# Altium schematic symbol library arthurbenemann-Atmel.SchLib: 651 symbols (part 3 of 28)
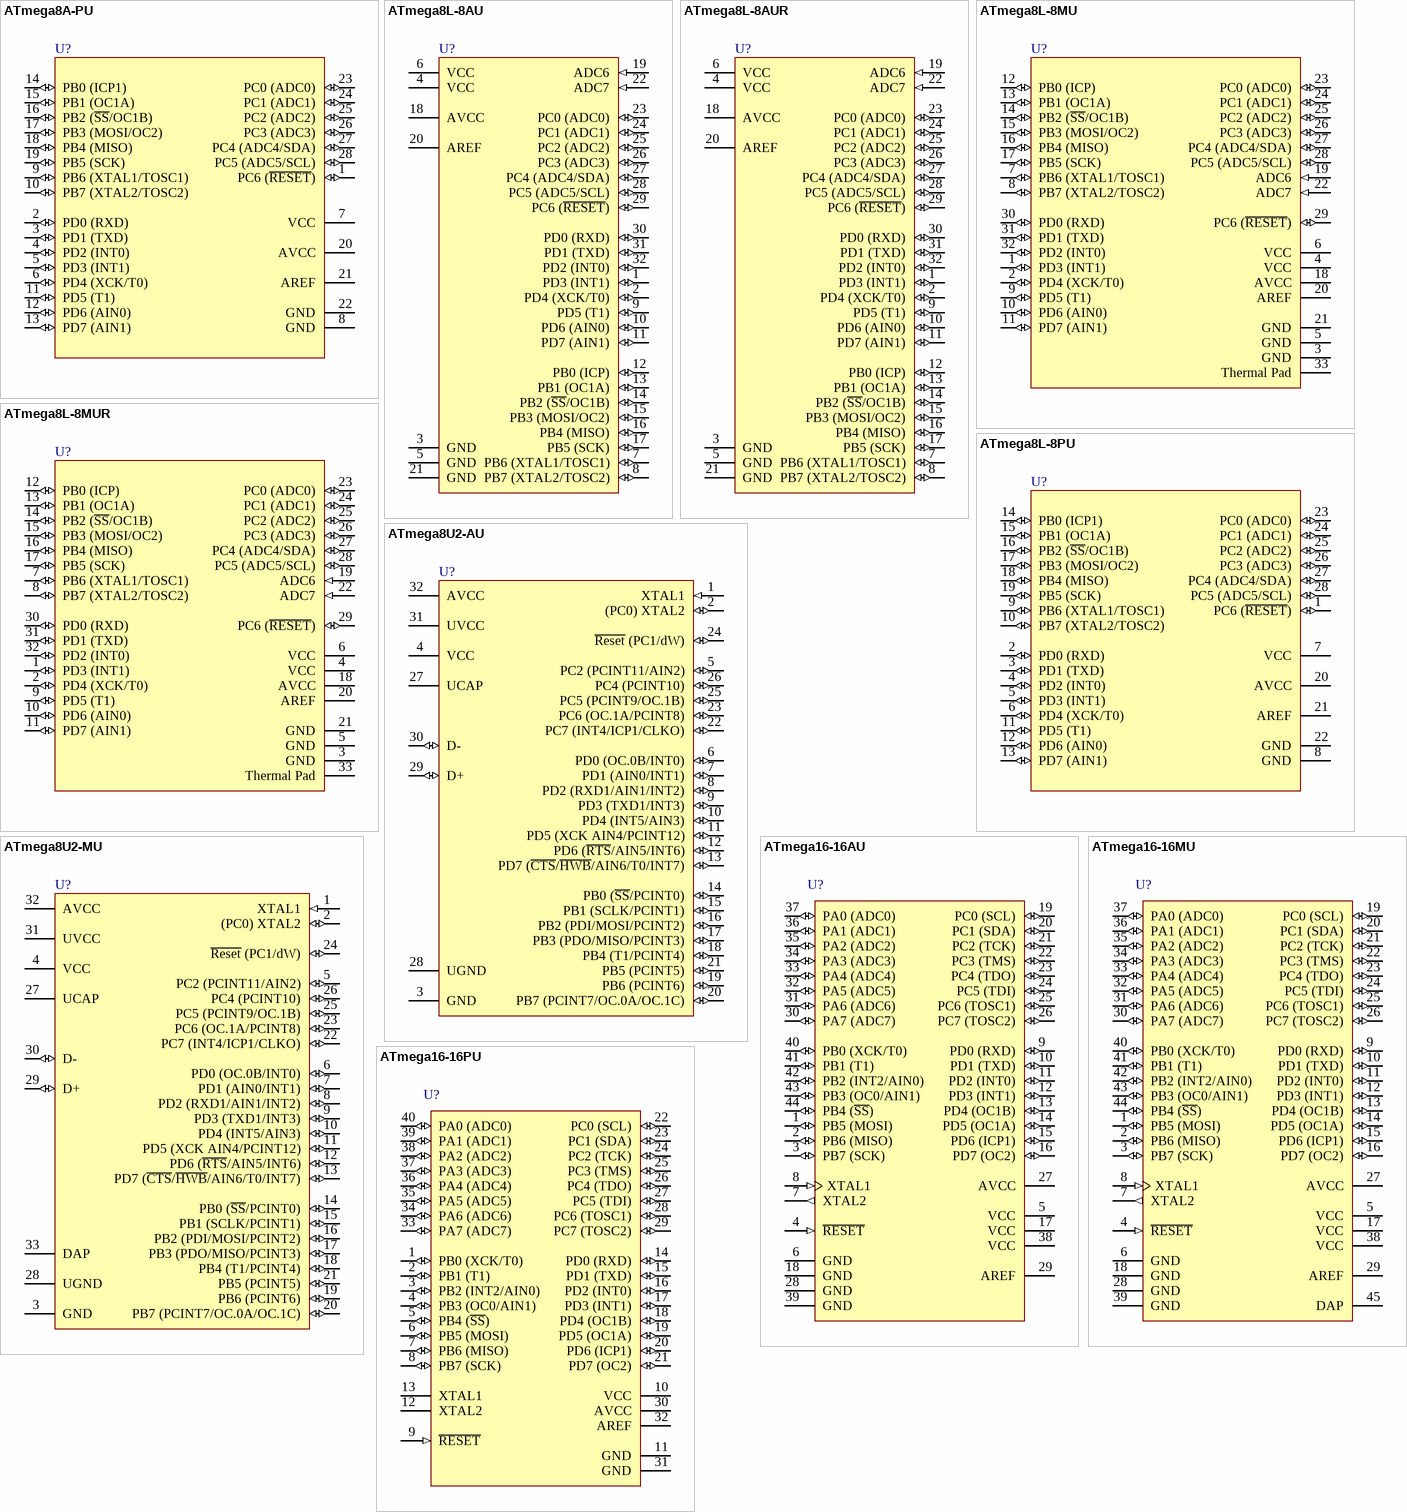
[diagram p89: symbols ATmega8A-PU to ATmega16-16PU]

## ATmega16-16AU
designator U?
8-bit AVR Microcontroller, 4.5-5.5V, 16KB Flash, 512 Bytes EEPROM, 1KB SRAM, 44-pin TQFP, Industrial Grade (-40°C to 85°C), Pb-Free; DatasheetVersion: revT, Jul-2010; PackageVersion: revC, Oct-2010; PackageReference: 44A; PackageDescription: 44-Pin Plastic Thin Profile Quad Flat Pack, 10 x 10 x 1.0 mm Body, 0.8 mm Pitch (TQFP); Code_JEDEC: MS-026-ACB; ComponentLink1Description: Manufacturer URL; ComponentLink1URL: http://www.atmel.com/; ComponentLink2Description: ATmega16(L)  Datasheet; ComponentLink2URL: http://www.atmel.com/dyn/resources/prod_documents/doc2466.pdf; ComponentLink3Description: ATmega16(L) Summary; ComponentLink3URL: http://www.atmel.com/dyn/resources/prod_documents/2466S.pdf
footprint 44A_N (Thin QFP, 44-Leads, Body 10x10mm, Pitch 0.8mm, IPC Medium Density)
footprint 44A_L (Thin QFP, 44-Leads, Body 10x10mm, Pitch 0.8mm, IPC High Density)
footprint 44A_M (Thin QFP, 44-Leads, Body 10x10mm, Pitch 0.8mm, IPC Low Density)
pins: 1 PB5 (MOSI) (io), 2 PB6 (MISO) (io), 3 PB7 (SCK) (io), 4 ~{RESET} (in), 5 VCC (power), 6 GND (power), 7 XTAL2 (out), 8 XTAL1 (in), 9 PD0 (RXD) (io), 10 PD1 (TXD) (io), 11 PD2 (INT0) (io), 12 PD3 (INT1) (io), 13 PD4 (OC1B) (io), 14 PD5 (OC1A) (io), 15 PD6 (ICP1) (io), 16 PD7 (OC2) (io), 17 VCC (power), 18 GND (power), 19 PC0 (SCL) (io), 20 PC1 (SDA) (io), 21 PC2 (TCK) (io), 22 PC3 (TMS) (io), 23 PC4 (TDO) (io), 24 PC5 (TDI) (io), 25 PC6 (TOSC1) (io), 26 PC7 (TOSC2) (io), 27 AVCC (power), 28 GND (power), 29 AREF (power), 30 PA7 (ADC7) (io), 31 PA6 (ADC6) (io), 32 PA5 (ADC5) (io), 33 PA4 (ADC4) (io), 34 PA3 (ADC3) (io), 35 PA2 (ADC2) (io), 36 PA1 (ADC1) (io), 37 PA0 (ADC0) (io), 38 VCC (power), 39 GND (power), 40 PB0 (XCK/T0) (io), 41 PB1 (T1) (io), 42 PB2 (INT2/AIN0) (io), 43 PB3 (OC0/AIN1) (io), 44 PB4 (~{SS}) (io)

## ATmega16-16MU
designator U?
8-bit AVR Microcontroller, 4.5-5.5V, 16KB Flash, 512 Bytes EEPROM, 1KB SRAM, 44-pin VQFN, Industrial Grade (-40°C to 85°C), Pb-Free; DatasheetVersion: revS, May-2009; PackageVersion: revH, Sep-2008; PackageReference: 44M1; PackageDescription: 44-Pin Plastic Very Thin Quad Flat No-Lead Package, 7 x 7 x 1.0 mm Body, 0.5 mm Pitch (VQFN), 5.2 mm Exposed Pad; Code_JEDEC: MO-220-VKKD-1; ComponentLink1Description: Manufacturer URL; ComponentLink1URL: http://www.atmel.com/; ComponentLink2Description: ATmega16(L)  Datasheet; ComponentLink2URL: http://www.atmel.com/dyn/resources/prod_documents/doc2466.pdf; ComponentLink3Description: ATmega16(L) Summary; ComponentLink3URL: http://www.atmel.com/dyn/resources/prod_documents/2466S.pdf
footprint 44M1_N (QFN, 44-Leads, Body 7x7mm, Pitch 0.5mm, Thermal Pad 5.3x5.3mm, IPC Medium Density)
footprint 44M1_L (QFN, 44-Leads, Body 7x7mm, Pitch 0.5mm, Thermal Pad 5.3x5.3mm, IPC High Density)
footprint 44M1_M (QFN, 44-Leads, Body 7x7mm, Pitch 0.5mm, Thermal Pad 5.3x5.3mm, IPC Low Density)
pins: 1 PB5 (MOSI) (io), 2 PB6 (MISO) (io), 3 PB7 (SCK) (io), 4 ~{RESET} (in), 5 VCC (power), 6 GND (power), 7 XTAL2 (out), 8 XTAL1 (in), 9 PD0 (RXD) (io), 10 PD1 (TXD) (io), 11 PD2 (INT0) (io), 12 PD3 (INT1) (io), 13 PD4 (OC1B) (io), 14 PD5 (OC1A) (io), 15 PD6 (ICP1) (io), 16 PD7 (OC2) (io), 17 VCC (power), 18 GND (power), 19 PC0 (SCL) (io), 20 PC1 (SDA) (io), 21 PC2 (TCK) (io), 22 PC3 (TMS) (io), 23 PC4 (TDO) (io), 24 PC5 (TDI) (io), 25 PC6 (TOSC1) (io), 26 PC7 (TOSC2) (io), 27 AVCC (power), 28 GND (power), 29 AREF (power), 30 PA7 (ADC7) (io), 31 PA6 (ADC6) (io), 32 PA5 (ADC5) (io), 33 PA4 (ADC4) (io), 34 PA3 (ADC3) (io), 35 PA2 (ADC2) (io), 36 PA1 (ADC1) (io), 37 PA0 (ADC0) (io), 38 VCC (power), 39 GND (power), 40 PB0 (XCK/T0) (io), 41 PB1 (T1) (io), 42 PB2 (INT2/AIN0) (io), 43 PB3 (OC0/AIN1) (io), 44 PB4 (~{SS}) (io), 45 DAP (power)

## ATmega16-16PU
designator U?
8-bit AVR Microcontroller, 4.5-5.5V, 16KB Flash, 512 Bytes EEPROM, 1KB SRAM, 40-pin PDIP, Industrial Grade (-40°C to 85°C), Pb-Free; DatasheetVersion: revS, May-2009; PackageVersion: revB, Sep-2001; PackageReference: 40P6; PackageDescription: 40-lead (0.600"/15.24mm Wide) Plastic Dual Inline Package (PDIP); Code_JEDEC: MS-011-AC; ComponentLink1Description: Manufacturer URL; ComponentLink1URL: http://www.atmel.com/; ComponentLink2Description: ATmega16(L)  Datasheet; ComponentLink2URL: http://www.atmel.com/dyn/resources/prod_documents/doc2466.pdf; ComponentLink3Description: ATmega16(L) Summary; ComponentLink3URL: http://www.atmel.com/dyn/resources/prod_documents/2466S.pdf
footprint 40P6 (DIP, 40-Leads, Row Spacing 15.24mm, Pitch 2.54mm, Body 52.2x13.95mm)
pins: 1 PB0 (XCK/T0) (io), 2 PB1 (T1) (io), 3 PB2 (INT2/AIN0) (io), 4 PB3 (OC0/AIN1) (io), 5 PB4 (~{SS}) (io), 6 PB5 (MOSI) (io), 7 PB6 (MISO) (io), 8 PB7 (SCK) (io), 9 ~{RESET} (in), 10 VCC (power), 11 GND (power), 12 XTAL2, 13 XTAL1, 14 PD0 (RXD) (io), 15 PD1 (TXD) (io), 16 PD2 (INT0) (io), 17 PD3 (INT1) (io), 18 PD4 (OC1B) (io), 19 PD5 (OC1A) (io), 20 PD6 (ICP1) (io), 21 PD7 (OC2) (io), 22 PC0 (SCL) (io), 23 PC1 (SDA) (io), 24 PC2 (TCK) (io), 25 PC3 (TMS) (io), 26 PC4 (TDO) (io), 27 PC5 (TDI) (io), 28 PC6 (TOSC1) (io), 29 PC7 (TOSC2) (io), 30 AVCC (power), 31 GND (power), 32 AREF (power), 33 PA7 (ADC7) (io), 34 PA6 (ADC6) (io), 35 PA5 (ADC5) (io), 36 PA4 (ADC4) (io), 37 PA3 (ADC3) (io), 38 PA2 (ADC2) (io), 39 PA1 (ADC1) (io), 40 PA0 (ADC0) (io)

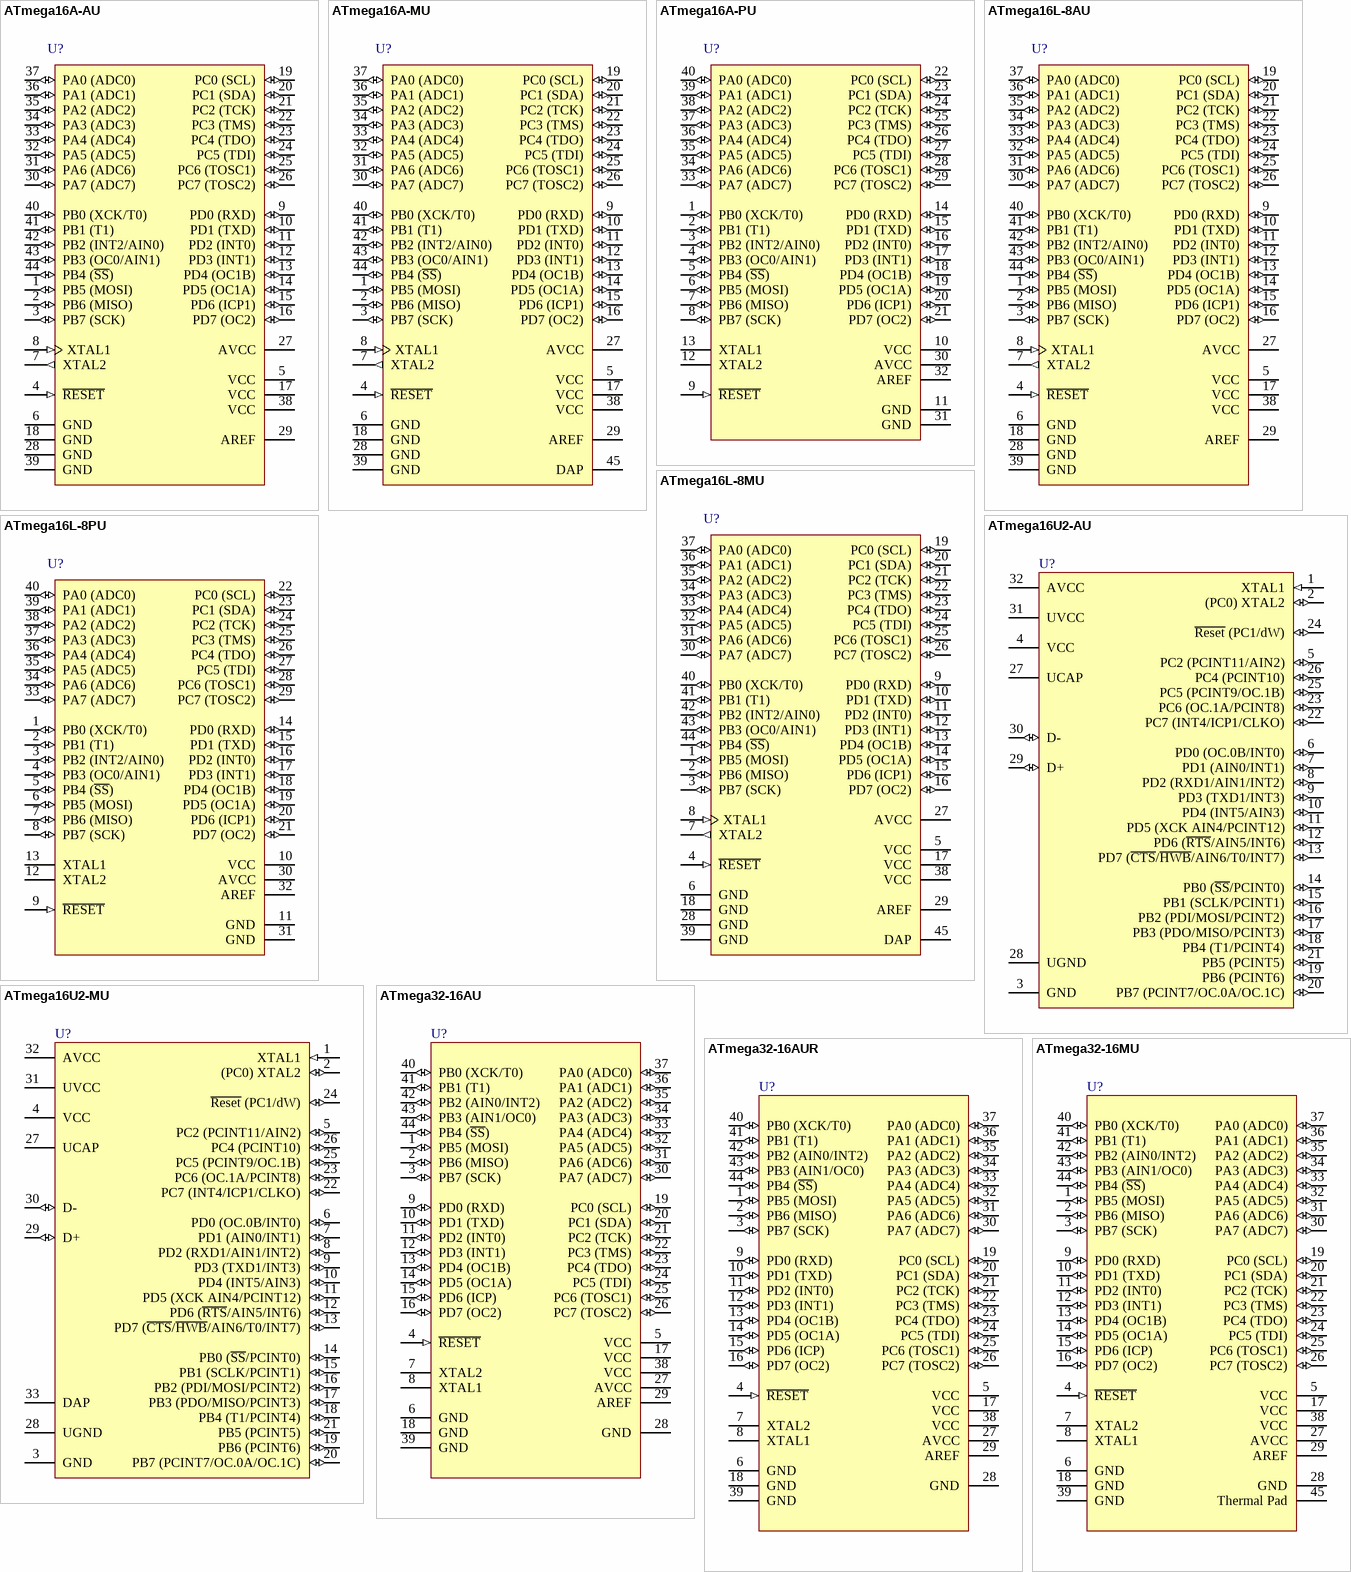
[diagram p6: symbols ATmega16A-AU to ATmega32-16MU]

## ATmega16A-AU
designator U?
8-bit AVR Microcontroller, 16KB Flash, 512 Bytes EEPROM, 1KB SRAM, 44-pin TQFP, Industrial Grade (-40°C to 85°C); DatasheetVersion: revB, Jul-2009; PackageVersion: revC, Oct-2010; PackageReference: 44A; PackageDescription: 44-Pin Plastic Thin Profile Quad Flat Pack, 10 x 10 x 1.0 mm Body, 0.8 mm Pitch (TQFP); Code_JEDEC: MS-026-ACB; ComponentLink1Description: Manufacturer URL; ComponentLink1URL: http://www.atmel.com/; ComponentLink2Description: ATmega16A Datasheet; ComponentLink2URL: http://www.atmel.com/dyn/resources/prod_documents/doc8154.pdf; ComponentLink3Description: ATmega16A Summary; ComponentLink3URL: http://www.atmel.com/dyn/resources/prod_documents/8154S.pdf
footprint 44A_N (Thin QFP, 44-Leads, Body 10x10mm, Pitch 0.8mm, IPC Medium Density)
footprint 44A_L (Thin QFP, 44-Leads, Body 10x10mm, Pitch 0.8mm, IPC High Density)
footprint 44A_M (Thin QFP, 44-Leads, Body 10x10mm, Pitch 0.8mm, IPC Low Density)
pins: 1 PB5 (MOSI) (io), 2 PB6 (MISO) (io), 3 PB7 (SCK) (io), 4 ~{RESET} (in), 5 VCC (power), 6 GND (power), 7 XTAL2 (out), 8 XTAL1 (in), 9 PD0 (RXD) (io), 10 PD1 (TXD) (io), 11 PD2 (INT0) (io), 12 PD3 (INT1) (io), 13 PD4 (OC1B) (io), 14 PD5 (OC1A) (io), 15 PD6 (ICP1) (io), 16 PD7 (OC2) (io), 17 VCC (power), 18 GND (power), 19 PC0 (SCL) (io), 20 PC1 (SDA) (io), 21 PC2 (TCK) (io), 22 PC3 (TMS) (io), 23 PC4 (TDO) (io), 24 PC5 (TDI) (io), 25 PC6 (TOSC1) (io), 26 PC7 (TOSC2) (io), 27 AVCC (power), 28 GND (power), 29 AREF (power), 30 PA7 (ADC7) (io), 31 PA6 (ADC6) (io), 32 PA5 (ADC5) (io), 33 PA4 (ADC4) (io), 34 PA3 (ADC3) (io), 35 PA2 (ADC2) (io), 36 PA1 (ADC1) (io), 37 PA0 (ADC0) (io), 38 VCC (power), 39 GND (power), 40 PB0 (XCK/T0) (io), 41 PB1 (T1) (io), 42 PB2 (INT2/AIN0) (io), 43 PB3 (OC0/AIN1) (io), 44 PB4 (~{SS}) (io)

## ATmega16A-MU
designator U?
8-bit AVR Microcontroller, 16KB Flash, 512 Bytes EEPROM, 1KB SRAM, 44-pin VQFN, Industrial Grade (-40°C to 85°C); DatasheetVersion: revB, Jul-2009; PackageVersion: revH, Sep-2008; PackageReference: 44M1; PackageDescription: 44-Pin Plastic Very Thin Quad Flat No-Lead Package, 7 x 7 x 1.0 mm Body, 0.5 mm Pitch (VQFN), 5.2 mm Exposed Pad; Code_JEDEC: MO-220-VKKD-1; ComponentLink1Description: Manufacturer URL; ComponentLink1URL: http://www.atmel.com/; ComponentLink2Description: ATmega16A Datasheet; ComponentLink2URL: http://www.atmel.com/dyn/resources/prod_documents/doc8154.pdf; ComponentLink3Description: ATmega16A Summary; ComponentLink3URL: http://www.atmel.com/dyn/resources/prod_documents/8154S.pdf
footprint 44M1_N (QFN, 44-Leads, Body 7x7mm, Pitch 0.5mm, Thermal Pad 5.3x5.3mm, IPC Medium Density)
footprint 44M1_L (QFN, 44-Leads, Body 7x7mm, Pitch 0.5mm, Thermal Pad 5.3x5.3mm, IPC High Density)
footprint 44M1_M (QFN, 44-Leads, Body 7x7mm, Pitch 0.5mm, Thermal Pad 5.3x5.3mm, IPC Low Density)
pins: 1 PB5 (MOSI) (io), 2 PB6 (MISO) (io), 3 PB7 (SCK) (io), 4 ~{RESET} (in), 5 VCC (power), 6 GND (power), 7 XTAL2 (out), 8 XTAL1 (in), 9 PD0 (RXD) (io), 10 PD1 (TXD) (io), 11 PD2 (INT0) (io), 12 PD3 (INT1) (io), 13 PD4 (OC1B) (io), 14 PD5 (OC1A) (io), 15 PD6 (ICP1) (io), 16 PD7 (OC2) (io), 17 VCC (power), 18 GND (power), 19 PC0 (SCL) (io), 20 PC1 (SDA) (io), 21 PC2 (TCK) (io), 22 PC3 (TMS) (io), 23 PC4 (TDO) (io), 24 PC5 (TDI) (io), 25 PC6 (TOSC1) (io), 26 PC7 (TOSC2) (io), 27 AVCC (power), 28 GND (power), 29 AREF (power), 30 PA7 (ADC7) (io), 31 PA6 (ADC6) (io), 32 PA5 (ADC5) (io), 33 PA4 (ADC4) (io), 34 PA3 (ADC3) (io), 35 PA2 (ADC2) (io), 36 PA1 (ADC1) (io), 37 PA0 (ADC0) (io), 38 VCC (power), 39 GND (power), 40 PB0 (XCK/T0) (io), 41 PB1 (T1) (io), 42 PB2 (INT2/AIN0) (io), 43 PB3 (OC0/AIN1) (io), 44 PB4 (~{SS}) (io), 45 DAP (power)

## ATmega16A-PU
designator U?
8-bit AVR Microcontroller, 16KB Flash, 512 Bytes EEPROM, 1KB SRAM, 40-pin PDIP, Industrial Grade (-40°C to 85°C); DatasheetVersion: revB, Jul-2009; PackageVersion: revB, Sep-2001; PackageReference: 40P6; PackageDescription: 40-lead (0.600"/15.24mm Wide) Plastic Dual Inline Package (PDIP); Code_JEDEC: MS-011-AC; ComponentLink1Description: Manufacturer URL; ComponentLink1URL: http://www.atmel.com/; ComponentLink2Description: ATmega16A Datasheet; ComponentLink2URL: http://www.atmel.com/dyn/resources/prod_documents/doc8154.pdf; ComponentLink3Description: ATmega16A Summary; ComponentLink3URL: http://www.atmel.com/dyn/resources/prod_documents/8154S.pdf
footprint 40P6 (DIP, 40-Leads, Row Spacing 15.24mm, Pitch 2.54mm, Body 52.2x13.95mm)
pins: 1 PB0 (XCK/T0) (io), 2 PB1 (T1) (io), 3 PB2 (INT2/AIN0) (io), 4 PB3 (OC0/AIN1) (io), 5 PB4 (~{SS}) (io), 6 PB5 (MOSI) (io), 7 PB6 (MISO) (io), 8 PB7 (SCK) (io), 9 ~{RESET} (in), 10 VCC (power), 11 GND (power), 12 XTAL2, 13 XTAL1, 14 PD0 (RXD) (io), 15 PD1 (TXD) (io), 16 PD2 (INT0) (io), 17 PD3 (INT1) (io), 18 PD4 (OC1B) (io), 19 PD5 (OC1A) (io), 20 PD6 (ICP1) (io), 21 PD7 (OC2) (io), 22 PC0 (SCL) (io), 23 PC1 (SDA) (io), 24 PC2 (TCK) (io), 25 PC3 (TMS) (io), 26 PC4 (TDO) (io), 27 PC5 (TDI) (io), 28 PC6 (TOSC1) (io), 29 PC7 (TOSC2) (io), 30 AVCC (power), 31 GND (power), 32 AREF (power), 33 PA7 (ADC7) (io), 34 PA6 (ADC6) (io), 35 PA5 (ADC5) (io), 36 PA4 (ADC4) (io), 37 PA3 (ADC3) (io), 38 PA2 (ADC2) (io), 39 PA1 (ADC1) (io), 40 PA0 (ADC0) (io)

## ATmega16L-8AU
designator U?
8-bit AVR Microcontroller, 2.7-5.5V, 16KB Flash, 512 Bytes EEPROM, 1KB SRAM, 44-pin TQFP, Industrial Grade (-40°C to 85°C), Pb-Free; DatasheetVersion: revS, May-2009; PackageVersion: revC, Oct-2010; PackageReference: 44A; PackageDescription: 44-Pin Plastic Thin Profile Quad Flat Pack, 10 x 10 x 1.0 mm Body, 0.8 mm Pitch (TQFP); Code_JEDEC: MS-026-ACB; ComponentLink1Description: Manufacturer URL; ComponentLink1URL: http://www.atmel.com/; ComponentLink2Description: ATmega16(L)  Datasheet; ComponentLink2URL: http://www.atmel.com/dyn/resources/prod_documents/doc2466.pdf; ComponentLink3Description: ATmega16(L) Summary; ComponentLink3URL: http://www.atmel.com/dyn/resources/prod_documents/2466S.pdf
footprint 44A_N (Thin QFP, 44-Leads, Body 10x10mm, Pitch 0.8mm, IPC Medium Density)
footprint 44A_L (Thin QFP, 44-Leads, Body 10x10mm, Pitch 0.8mm, IPC High Density)
footprint 44A_M (Thin QFP, 44-Leads, Body 10x10mm, Pitch 0.8mm, IPC Low Density)
pins: 1 PB5 (MOSI) (io), 2 PB6 (MISO) (io), 3 PB7 (SCK) (io), 4 ~{RESET} (in), 5 VCC (power), 6 GND (power), 7 XTAL2 (out), 8 XTAL1 (in), 9 PD0 (RXD) (io), 10 PD1 (TXD) (io), 11 PD2 (INT0) (io), 12 PD3 (INT1) (io), 13 PD4 (OC1B) (io), 14 PD5 (OC1A) (io), 15 PD6 (ICP1) (io), 16 PD7 (OC2) (io), 17 VCC (power), 18 GND (power), 19 PC0 (SCL) (io), 20 PC1 (SDA) (io), 21 PC2 (TCK) (io), 22 PC3 (TMS) (io), 23 PC4 (TDO) (io), 24 PC5 (TDI) (io), 25 PC6 (TOSC1) (io), 26 PC7 (TOSC2) (io), 27 AVCC (power), 28 GND (power), 29 AREF (power), 30 PA7 (ADC7) (io), 31 PA6 (ADC6) (io), 32 PA5 (ADC5) (io), 33 PA4 (ADC4) (io), 34 PA3 (ADC3) (io), 35 PA2 (ADC2) (io), 36 PA1 (ADC1) (io), 37 PA0 (ADC0) (io), 38 VCC (power), 39 GND (power), 40 PB0 (XCK/T0) (io), 41 PB1 (T1) (io), 42 PB2 (INT2/AIN0) (io), 43 PB3 (OC0/AIN1) (io), 44 PB4 (~{SS}) (io)

## ATmega16L-8MU
designator U?
8-bit AVR Microcontroller, 2.7-5.5V, 16KB Flash, 512 Bytes EEPROM, 1KB SRAM, 44-pin VQFN, Industrial Grade (-40°C to 85°C), Pb-Free; DatasheetVersion: revS, May-2009; PackageVersion: revH, Sep-2008; PackageReference: 44M1; PackageDescription: 44-Pin Plastic Very Thin Quad Flat No-Lead Package, 7 x 7 x 1.0 mm Body, 0.5 mm Pitch (VQFN), 5.2 mm Exposed Pad; Code_JEDEC: MO-220-VKKD-1; ComponentLink1Description: Manufacturer URL; ComponentLink1URL: http://www.atmel.com/; ComponentLink2Description: ATmega16(L)  Datasheet; ComponentLink2URL: http://www.atmel.com/dyn/resources/prod_documents/doc2466.pdf; ComponentLink3Description: ATmega16(L) Summary; ComponentLink3URL: http://www.atmel.com/dyn/resources/prod_documents/2466S.pdf
footprint 44M1_N (QFN, 44-Leads, Body 7x7mm, Pitch 0.5mm, Thermal Pad 5.3x5.3mm, IPC Medium Density)
footprint 44M1_L (QFN, 44-Leads, Body 7x7mm, Pitch 0.5mm, Thermal Pad 5.3x5.3mm, IPC High Density)
footprint 44M1_M (QFN, 44-Leads, Body 7x7mm, Pitch 0.5mm, Thermal Pad 5.3x5.3mm, IPC Low Density)
pins: 1 PB5 (MOSI) (io), 2 PB6 (MISO) (io), 3 PB7 (SCK) (io), 4 ~{RESET} (in), 5 VCC (power), 6 GND (power), 7 XTAL2 (out), 8 XTAL1 (in), 9 PD0 (RXD) (io), 10 PD1 (TXD) (io), 11 PD2 (INT0) (io), 12 PD3 (INT1) (io), 13 PD4 (OC1B) (io), 14 PD5 (OC1A) (io), 15 PD6 (ICP1) (io), 16 PD7 (OC2) (io), 17 VCC (power), 18 GND (power), 19 PC0 (SCL) (io), 20 PC1 (SDA) (io), 21 PC2 (TCK) (io), 22 PC3 (TMS) (io), 23 PC4 (TDO) (io), 24 PC5 (TDI) (io), 25 PC6 (TOSC1) (io), 26 PC7 (TOSC2) (io), 27 AVCC (power), 28 GND (power), 29 AREF (power), 30 PA7 (ADC7) (io), 31 PA6 (ADC6) (io), 32 PA5 (ADC5) (io), 33 PA4 (ADC4) (io), 34 PA3 (ADC3) (io), 35 PA2 (ADC2) (io), 36 PA1 (ADC1) (io), 37 PA0 (ADC0) (io), 38 VCC (power), 39 GND (power), 40 PB0 (XCK/T0) (io), 41 PB1 (T1) (io), 42 PB2 (INT2/AIN0) (io), 43 PB3 (OC0/AIN1) (io), 44 PB4 (~{SS}) (io), 45 DAP (power)

## ATmega16L-8PU
designator U?
8-bit AVR Microcontroller, 2.7-5.5V, 16KB Flash, 512 Bytes EEPROM, 1KB SRAM, 40-pin PDIP, Industrial Grade (-40°C to 85°C), Pb-Free; DatasheetVersion: revS, May-2009; PackageVersion: revB, Sep-2001; PackageReference: 40P6; PackageDescription: 40-lead (0.600"/15.24mm Wide) Plastic Dual Inline Package (PDIP); Code_JEDEC: MS-011-AC; ComponentLink1Description: Manufacturer URL; ComponentLink1URL: http://www.atmel.com/; ComponentLink2Description: ATmega16(L)  Datasheet; ComponentLink2URL: http://www.atmel.com/dyn/resources/prod_documents/doc2466.pdf; ComponentLink3Description: ATmega16(L) Summary; ComponentLink3URL: http://www.atmel.com/dyn/resources/prod_documents/2466S.pdf
footprint 40P6 (DIP, 40-Leads, Row Spacing 15.24mm, Pitch 2.54mm, Body 52.2x13.95mm)
pins: 1 PB0 (XCK/T0) (io), 2 PB1 (T1) (io), 3 PB2 (INT2/AIN0) (io), 4 PB3 (OC0/AIN1) (io), 5 PB4 (~{SS}) (io), 6 PB5 (MOSI) (io), 7 PB6 (MISO) (io), 8 PB7 (SCK) (io), 9 ~{RESET} (in), 10 VCC (power), 11 GND (power), 12 XTAL2, 13 XTAL1, 14 PD0 (RXD) (io), 15 PD1 (TXD) (io), 16 PD2 (INT0) (io), 17 PD3 (INT1) (io), 18 PD4 (OC1B) (io), 19 PD5 (OC1A) (io), 20 PD6 (ICP1) (io), 21 PD7 (OC2) (io), 22 PC0 (SCL) (io), 23 PC1 (SDA) (io), 24 PC2 (TCK) (io), 25 PC3 (TMS) (io), 26 PC4 (TDO) (io), 27 PC5 (TDI) (io), 28 PC6 (TOSC1) (io), 29 PC7 (TOSC2) (io), 30 AVCC (power), 31 GND (power), 32 AREF (power), 33 PA7 (ADC7) (io), 34 PA6 (ADC6) (io), 35 PA5 (ADC5) (io), 36 PA4 (ADC4) (io), 37 PA3 (ADC3) (io), 38 PA2 (ADC2) (io), 39 PA1 (ADC1) (io), 40 PA0 (ADC0) (io)

## ATmega16U2-AU
designator U?
8-bit AVR Microcontroller, 2.7-5.5V, 16KB Flash, 512 Bytes EEPROM, 512 Bytes SRAM, 32-pin TQFP, Industrial Grade (-40°C to 85°C); DatasheetVersion: revD, Nov-2010; PackageVersion: revC, Oct-2010; PackageReference: 32A; PackageDescription: 32-Lead, 7x7x1.0 mm Body, 0.8mm Lead Pitch, Thin Profile Plastic Quad Flat Package (TQFP); Code_JEDEC: MS-026-ABA; ComponentLink1Description: Manufacturer URL; ComponentLink1URL: http://www.atmel.com/; ComponentLink2Description: ATmega8U2/16U2/32U2 Datasheet; ComponentLink2URL: http://www.atmel.com/dyn/resources/prod_documents/doc7799.pdf; ComponentLink3Description: ATmega8U2/16U2/32U2 Summary; ComponentLink3URL: http://www.atmel.com/dyn/resources/prod_documents/7799S.pdf
footprint 32A_N (Thin QFP, 32-Leads, Body 7x7mm, Pitch 0.8mm, IPC Medium Density)
footprint 32A_L (Thin QFP, 32-Leads, Body 7x7mm, Pitch 0.8mm, IPC High Density)
footprint 32A_M (Thin QFP, 32-Leads, Body 7x7mm, Pitch 0.8mm, IPC Low Density)
pins: 1 XTAL1 (in), 2 (PC0) XTAL2 (io), 3 GND (power), 4 VCC (power), 5 PC2 (PCINT11/AIN2) (io), 6 PD0 (OC.0B/INT0) (io), 7 PD1 (AIN0/INT1) (io), 8 PD2 (RXD1/AIN1/INT2) (io), 9 PD3 (TXD1/INT3) (io), 10 PD4 (INT5/AIN3) (io), 11 PD5 (XCK AIN4/PCINT12) (io), 12 PD6 (~{RTS}/AIN5/INT6) (io), 13 PD7 (~{CTS}/~{HWB}/AIN6/T0/INT7) (io), 14 PB0 (~{SS}/PCINT0) (io), 15 PB1 (SCLK/PCINT1) (io), 16 PB2 (PDI/MOSI/PCINT2) (io), 17 PB3 (PDO/MISO/PCINT3) (io), 18 PB4 (T1/PCINT4) (io), 19 PB6 (PCINT6) (io), 20 PB7 (PCINT7/OC.0A/OC.1C) (io), 21 PB5 (PCINT5) (io), 22 PC7 (INT4/ICP1/CLKO) (io), 23 PC6 (OC.1A/PCINT8) (io), 24 ~{Reset} (PC1/dW) (io), 25 PC5 (PCINT9/OC.1B) (io), 26 PC4 (PCINT10) (io), 27 UCAP (power), 28 UGND (power), 29 D+ (io), 30 D- (io), 31 UVCC (power), 32 AVCC (power)

## ATmega16U2-MU
designator U?
8-bit AVR Microcontroller, 2.7-5.5V, 16KB Flash, 512 Bytes EEPROM, 512 Bytes SRAM, 32-pin VQFN, Industrial Grade (-40°C to 85°C); DatasheetVersion: revD, Nov-2010; PackageVersion: revA, Oct-2008; PackageReference: 32PG; PackageDescription: 32-Pin Quad Flat No-Lead (QFN) Sawn,  5 x 5 x 1.0 mm Body, Pitch 0.50 mm, 3.60mm Exposed Pad; Code_JEDEC: MO-220WHHD-2; ComponentLink1Description: Manufacturer URL; ComponentLink1URL: http://www.atmel.com/; ComponentLink2Description: ATmega8U2/16U2/32U2 Datasheet; ComponentLink2URL: http://www.atmel.com/dyn/resources/prod_documents/doc7799.pdf; ComponentLink3Description: ATmega8U2/16U2/32U2 Summary; ComponentLink3URL: http://www.atmel.com/dyn/resources/prod_documents/7799S.pdf
footprint 32PG_N (QFN, 32-Leads, Body 5x5mm, Pitch 0.5mm, Thermal Pad 3.7x3.7mm, IPC Medium Density)
footprint 32PG_L (QFN, 32-Leads, Body 5x5mm, Pitch 0.5mm, Thermal Pad 3.7x3.7mm, IPC High Density)
footprint 32PG_M (QFN, 32-Leads, Body 5x5mm, Pitch 0.5mm, Thermal Pad 3.7x3.7mm, IPC Low Density)
pins: 1 XTAL1 (in), 2 (PC0) XTAL2 (io), 3 GND (power), 4 VCC (power), 5 PC2 (PCINT11/AIN2) (io), 6 PD0 (OC.0B/INT0) (io), 7 PD1 (AIN0/INT1) (io), 8 PD2 (RXD1/AIN1/INT2) (io), 9 PD3 (TXD1/INT3) (io), 10 PD4 (INT5/AIN3) (io), 11 PD5 (XCK AIN4/PCINT12) (io), 12 PD6 (~{RTS}/AIN5/INT6) (io), 13 PD7 (~{CTS}/~{HWB}/AIN6/T0/INT7) (io), 14 PB0 (~{SS}/PCINT0) (io), 15 PB1 (SCLK/PCINT1) (io), 16 PB2 (PDI/MOSI/PCINT2) (io), 17 PB3 (PDO/MISO/PCINT3) (io), 18 PB4 (T1/PCINT4) (io), 19 PB6 (PCINT6) (io), 20 PB7 (PCINT7/OC.0A/OC.1C) (io), 21 PB5 (PCINT5) (io), 22 PC7 (INT4/ICP1/CLKO) (io), 23 PC6 (OC.1A/PCINT8) (io), 24 ~{Reset} (PC1/dW) (io), 25 PC5 (PCINT9/OC.1B) (io), 26 PC4 (PCINT10) (io), 27 UCAP (power), 28 UGND (power), 29 D+ (io), 30 D- (io), 31 UVCC (power), 32 AVCC (power), 33 DAP (power)

## ATmega32-16AU
designator U?
8-bit AVR Microcontroller, 4.5-5.5V, 16MHz, 32KB Flash, 1024 Bytes EEPROM, 2KB SRAM, 44-pin TQFP, Industrial Grade (-40°C to 85°C); DatasheetVersion: revQ, Feb-2011; PackageVersion: revC, Oct-2010; PackageReference: 44A; PackageDescription: 44-Pin Plastic Thin Profile Quad Flat Pack, 10 x 10 x 1.0 mm Body, 0.8 mm Pitch (TQFP); Code_JEDEC: MS-026-ACB; ComponentLink1Description: Manufacturer URL; ComponentLink1URL: http://www.atmel.com/; ComponentLink2Description: ATmega32(L) Datasheet; ComponentLink2URL: http://atmel.com/dyn/resources/prod_documents/doc2503.pdf; ComponentLink3Description: ATmega32(L) Summary; ComponentLink3URL: http://atmel.com/dyn/resources/prod_documents/2503S.pdf
footprint 44A_N (Thin QFP, 44-Leads, Body 10x10mm, Pitch 0.8mm, IPC Medium Density)
footprint 44A_L (Thin QFP, 44-Leads, Body 10x10mm, Pitch 0.8mm, IPC High Density)
footprint 44A_M (Thin QFP, 44-Leads, Body 10x10mm, Pitch 0.8mm, IPC Low Density)
pins: 1 PB5 (MOSI) (io), 2 PB6 (MISO) (io), 3 PB7 (SCK) (io), 4 ~{RESET} (in), 5 VCC (power), 6 GND (power), 7 XTAL2, 8 XTAL1, 9 PD0 (RXD) (io), 10 PD1 (TXD) (io), 11 PD2 (INT0) (io), 12 PD3 (INT1) (io), 13 PD4 (OC1B) (io), 14 PD5 (OC1A) (io), 15 PD6 (ICP) (io), 16 PD7 (OC2) (io), 17 VCC (power), 18 GND (power), 19 PC0 (SCL) (io), 20 PC1 (SDA) (io), 21 PC2 (TCK) (io), 22 PC3 (TMS) (io), 23 PC4 (TDO) (io), 24 PC5 (TDI) (io), 25 PC6 (TOSC1) (io), 26 PC7 (TOSC2) (io), 27 AVCC (power), 28 GND (power), 29 AREF, 30 PA7 (ADC7) (io), 31 PA6 (ADC6) (io), 32 PA5 (ADC5) (io), 33 PA4 (ADC4) (io), 34 PA3 (ADC3) (io), 35 PA2 (ADC2) (io), 36 PA1 (ADC1) (io), 37 PA0 (ADC0) (io), 38 VCC (power), 39 GND (power), 40 PB0 (XCK/T0) (io), 41 PB1 (T1) (io), 42 PB2 (AIN0/INT2) (io), 43 PB3 (AIN1/OC0) (io), 44 PB4 (~{SS}) (io)

## ATmega32-16AUR
designator U?
8-bit AVR Microcontroller, 4.5-5.5V, 16MHz, 32KB Flash, 1024 Bytes EEPROM, 2KB SRAM, 44-pin TQFP, Industrial Grade (-40°C to 85°C), Reel; DatasheetVersion: revQ, Feb-2011; PackageVersion: revC, Oct-2010; PackageReference: 44A; PackageDescription: 44-Pin Plastic Thin Profile Quad Flat Pack, 10 x 10 x 1.0 mm Body, 0.8 mm Pitch (TQFP); Code_JEDEC: MS-026-ACB; ComponentLink1Description: Manufacturer URL; ComponentLink1URL: http://www.atmel.com/; ComponentLink2Description: ATmega32(L) Datasheet; ComponentLink2URL: http://atmel.com/dyn/resources/prod_documents/doc2503.pdf; ComponentLink3Description: ATmega32(L) Summary; ComponentLink3URL: http://atmel.com/dyn/resources/prod_documents/2503S.pdf
footprint 44A_N (Thin QFP, 44-Leads, Body 10x10mm, Pitch 0.8mm, IPC Medium Density)
footprint 44A_L (Thin QFP, 44-Leads, Body 10x10mm, Pitch 0.8mm, IPC High Density)
footprint 44A_M (Thin QFP, 44-Leads, Body 10x10mm, Pitch 0.8mm, IPC Low Density)
pins: 1 PB5 (MOSI) (io), 2 PB6 (MISO) (io), 3 PB7 (SCK) (io), 4 ~{RESET} (in), 5 VCC (power), 6 GND (power), 7 XTAL2, 8 XTAL1, 9 PD0 (RXD) (io), 10 PD1 (TXD) (io), 11 PD2 (INT0) (io), 12 PD3 (INT1) (io), 13 PD4 (OC1B) (io), 14 PD5 (OC1A) (io), 15 PD6 (ICP) (io), 16 PD7 (OC2) (io), 17 VCC (power), 18 GND (power), 19 PC0 (SCL) (io), 20 PC1 (SDA) (io), 21 PC2 (TCK) (io), 22 PC3 (TMS) (io), 23 PC4 (TDO) (io), 24 PC5 (TDI) (io), 25 PC6 (TOSC1) (io), 26 PC7 (TOSC2) (io), 27 AVCC (power), 28 GND (power), 29 AREF, 30 PA7 (ADC7) (io), 31 PA6 (ADC6) (io), 32 PA5 (ADC5) (io), 33 PA4 (ADC4) (io), 34 PA3 (ADC3) (io), 35 PA2 (ADC2) (io), 36 PA1 (ADC1) (io), 37 PA0 (ADC0) (io), 38 VCC (power), 39 GND (power), 40 PB0 (XCK/T0) (io), 41 PB1 (T1) (io), 42 PB2 (AIN0/INT2) (io), 43 PB3 (AIN1/OC0) (io), 44 PB4 (~{SS}) (io)

## ATmega32-16MU
designator U?
8-bit AVR Microcontroller, 4.5-5.5V, 16MHz, 32KB Flash, 1024 Bytes EEPROM, 2KB SRAM, 44-pin MLF, Industrial Grade (-40°C to 85°C); DatasheetVersion: revQ, Feb-2011; PackageVersion: revH, Sep-2008; PackageReference: 44M1; PackageDescription: 44-Pin Plastic Very Thin Quad Flat No-Lead Package, 7 x 7 x 1.0 mm Body, 0.5 mm Pitch (VQFN), 5.2 mm Exposed Pad; Code_JEDEC: MO-220-VKKD-1; ComponentLink1Description: Manufacturer URL; ComponentLink1URL: http://www.atmel.com/; ComponentLink2Description: ATmega32(L) Datasheet; ComponentLink2URL: http://atmel.com/dyn/resources/prod_documents/doc2503.pdf; ComponentLink3Description: ATmega32(L) Summary; ComponentLink3URL: http://atmel.com/dyn/resources/prod_documents/2503S.pdf
footprint 44M1_N (QFN, 44-Leads, Body 7x7mm, Pitch 0.5mm, Thermal Pad 5.3x5.3mm, IPC Medium Density)
footprint 44M1_L (QFN, 44-Leads, Body 7x7mm, Pitch 0.5mm, Thermal Pad 5.3x5.3mm, IPC High Density)
footprint 44M1_M (QFN, 44-Leads, Body 7x7mm, Pitch 0.5mm, Thermal Pad 5.3x5.3mm, IPC Low Density)
pins: 1 PB5 (MOSI) (io), 2 PB6 (MISO) (io), 3 PB7 (SCK) (io), 4 ~{RESET} (in), 5 VCC (power), 6 GND (power), 7 XTAL2, 8 XTAL1, 9 PD0 (RXD) (io), 10 PD1 (TXD) (io), 11 PD2 (INT0) (io), 12 PD3 (INT1) (io), 13 PD4 (OC1B) (io), 14 PD5 (OC1A) (io), 15 PD6 (ICP) (io), 16 PD7 (OC2) (io), 17 VCC (power), 18 GND (power), 19 PC0 (SCL) (io), 20 PC1 (SDA) (io), 21 PC2 (TCK) (io), 22 PC3 (TMS) (io), 23 PC4 (TDO) (io), 24 PC5 (TDI) (io), 25 PC6 (TOSC1) (io), 26 PC7 (TOSC2) (io), 27 AVCC (power), 28 GND (power), 29 AREF, 30 PA7 (ADC7) (io), 31 PA6 (ADC6) (io), 32 PA5 (ADC5) (io), 33 PA4 (ADC4) (io), 34 PA3 (ADC3) (io), 35 PA2 (ADC2) (io), 36 PA1 (ADC1) (io), 37 PA0 (ADC0) (io), 38 VCC (power), 39 GND (power), 40 PB0 (XCK/T0) (io), 41 PB1 (T1) (io), 42 PB2 (AIN0/INT2) (io), 43 PB3 (AIN1/OC0) (io), 44 PB4 (~{SS}) (io), 45 Thermal Pad (power)

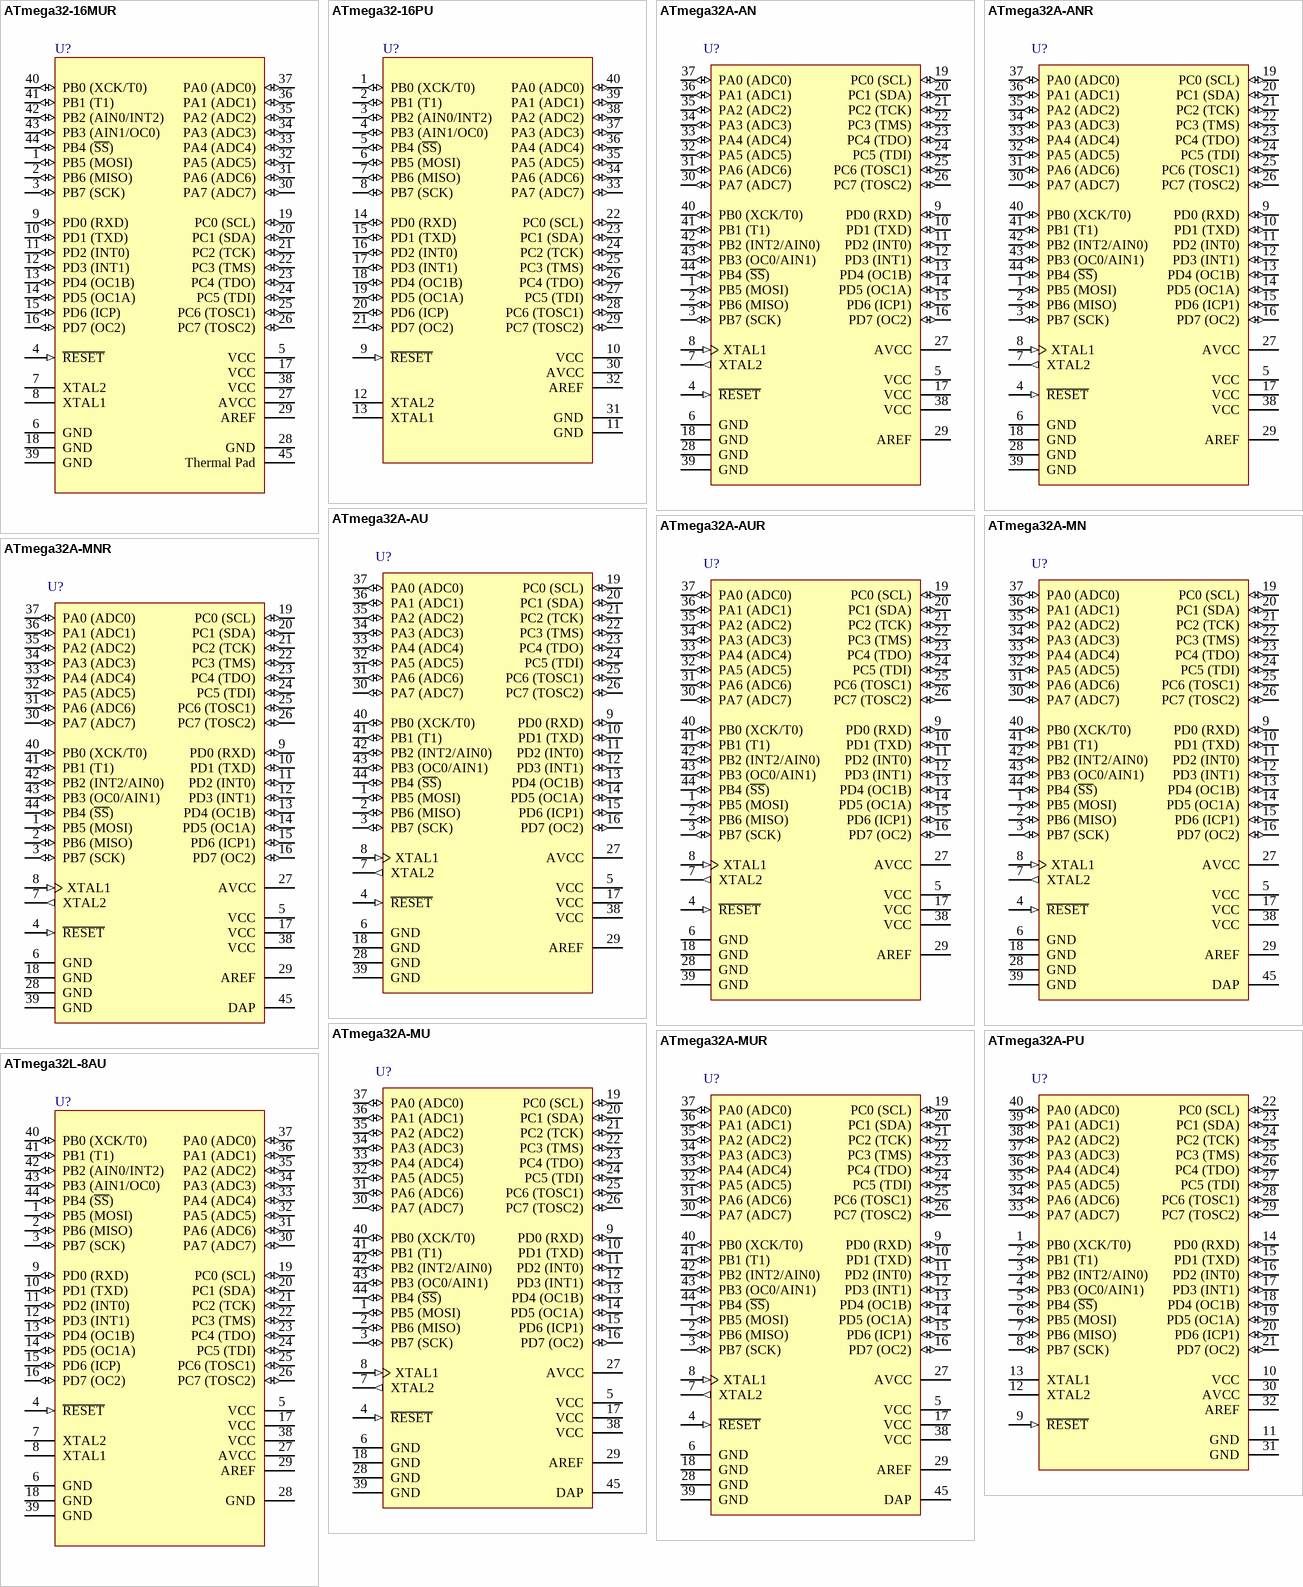
[diagram p7: symbols ATmega32-16MUR to ATmega32L-8AU]

## ATmega32-16MUR
designator U?
8-bit AVR Microcontroller, 4.5-5.5V, 16MHz, 32KB Flash, 1024 Bytes EEPROM, 2KB SRAM, 44-pin MLF, Industrial Grade (-40°C to 85°C), Reel; DatasheetVersion: revQ, Feb-2011; PackageVersion: revH, Sep-2008; PackageReference: 44M1; PackageDescription: 44-Pin Plastic Very Thin Quad Flat No-Lead Package, 7 x 7 x 1.0 mm Body, 0.5 mm Pitch (VQFN), 5.2 mm Exposed Pad; Code_JEDEC: MO-220-VKKD-1; ComponentLink1Description: Manufacturer URL; ComponentLink1URL: http://www.atmel.com/; ComponentLink2Description: ATmega32(L) Datasheet; ComponentLink2URL: http://atmel.com/dyn/resources/prod_documents/doc2503.pdf; ComponentLink3Description: ATmega32(L) Summary; ComponentLink3URL: http://atmel.com/dyn/resources/prod_documents/2503S.pdf
footprint 44M1_N (QFN, 44-Leads, Body 7x7mm, Pitch 0.5mm, Thermal Pad 5.3x5.3mm, IPC Medium Density)
footprint 44M1_L (QFN, 44-Leads, Body 7x7mm, Pitch 0.5mm, Thermal Pad 5.3x5.3mm, IPC High Density)
footprint 44M1_M (QFN, 44-Leads, Body 7x7mm, Pitch 0.5mm, Thermal Pad 5.3x5.3mm, IPC Low Density)
pins: 1 PB5 (MOSI) (io), 2 PB6 (MISO) (io), 3 PB7 (SCK) (io), 4 ~{RESET} (in), 5 VCC (power), 6 GND (power), 7 XTAL2, 8 XTAL1, 9 PD0 (RXD) (io), 10 PD1 (TXD) (io), 11 PD2 (INT0) (io), 12 PD3 (INT1) (io), 13 PD4 (OC1B) (io), 14 PD5 (OC1A) (io), 15 PD6 (ICP) (io), 16 PD7 (OC2) (io), 17 VCC (power), 18 GND (power), 19 PC0 (SCL) (io), 20 PC1 (SDA) (io), 21 PC2 (TCK) (io), 22 PC3 (TMS) (io), 23 PC4 (TDO) (io), 24 PC5 (TDI) (io), 25 PC6 (TOSC1) (io), 26 PC7 (TOSC2) (io), 27 AVCC (power), 28 GND (power), 29 AREF, 30 PA7 (ADC7) (io), 31 PA6 (ADC6) (io), 32 PA5 (ADC5) (io), 33 PA4 (ADC4) (io), 34 PA3 (ADC3) (io), 35 PA2 (ADC2) (io), 36 PA1 (ADC1) (io), 37 PA0 (ADC0) (io), 38 VCC (power), 39 GND (power), 40 PB0 (XCK/T0) (io), 41 PB1 (T1) (io), 42 PB2 (AIN0/INT2) (io), 43 PB3 (AIN1/OC0) (io), 44 PB4 (~{SS}) (io), 45 Thermal Pad (power)

## ATmega32-16PU
designator U?
8-bit AVR Microcontroller, 4.5-5.5V, 16MHz, 32KB Flash, 1024 Bytes EEPROM, 2KB SRAM, 40-pin PDIP, Industrial Grade (-40°C to 85°C); DatasheetVersion: revQ, Feb-2011; PackageVersion: revB, Sep-2001; PackageReference: 40P6; PackageDescription: 40-lead (0.600"/15.24mm Wide) Plastic Dual Inline Package (PDIP); Code_JEDEC: MS-011-AC; ComponentLink1Description: Manufacturer URL; ComponentLink1URL: http://www.atmel.com/; ComponentLink2Description: ATmega32(L) Datasheet; ComponentLink2URL: http://atmel.com/dyn/resources/prod_documents/doc2503.pdf; ComponentLink3Description: ATmega32(L) Summary; ComponentLink3URL: http://atmel.com/dyn/resources/prod_documents/2503S.pdf
footprint 40P6 (DIP, 40-Leads, Row Spacing 15.24mm, Pitch 2.54mm, Body 52.2x13.95mm)
pins: 1 PB0 (XCK/T0) (io), 2 PB1 (T1) (io), 3 PB2 (AIN0/INT2) (io), 4 PB3 (AIN1/OC0) (io), 5 PB4 (~{SS}) (io), 6 PB5 (MOSI) (io), 7 PB6 (MISO) (io), 8 PB7 (SCK) (io), 9 ~{RESET} (in), 10 VCC (power), 11 GND (power), 12 XTAL2, 13 XTAL1, 14 PD0 (RXD) (io), 15 PD1 (TXD) (io), 16 PD2 (INT0) (io), 17 PD3 (INT1) (io), 18 PD4 (OC1B) (io), 19 PD5 (OC1A) (io), 20 PD6 (ICP) (io), 21 PD7 (OC2) (io), 22 PC0 (SCL) (io), 23 PC1 (SDA) (io), 24 PC2 (TCK) (io), 25 PC3 (TMS) (io), 26 PC4 (TDO) (io), 27 PC5 (TDI) (io), 28 PC6 (TOSC1) (io), 29 PC7 (TOSC2) (io), 30 AVCC (power), 31 GND (power), 32 AREF, 33 PA7 (ADC7) (io), 34 PA6 (ADC6) (io), 35 PA5 (ADC5) (io), 36 PA4 (ADC4) (io), 37 PA3 (ADC3) (io), 38 PA2 (ADC2) (io), 39 PA1 (ADC1) (io), 40 PA0 (ADC0) (io)

## ATmega32A-AN
designator U?
8-bit AVR Microcontroller, 2.7-5.5V, 16MHz, 32KB Flash, 1KB EEPROM, 2KB SRAM, 44-pin TQFP, Extended Grade (-40°C to 105°C); DatasheetVersion: revC, Feb-2011; PackageVersion: revC, Oct-2010; PackageReference: 44A; PackageDescription: 44-Pin Plastic Thin Profile Quad Flat Pack, 10 x 10 x 1.0 mm Body, 0.8 mm Pitch (TQFP); Code_JEDEC: MS-026-ACB; ComponentLink1Description: Manufacturer URL; ComponentLink1URL: http://www.atmel.com/; ComponentLink2Description: ATmega32A Datasheet; ComponentLink2URL: http://www.atmel.com/dyn/resources/prod_documents/doc8155.pdf; ComponentLink3Description: ATmega32A Summary; ComponentLink3URL: http://www.atmel.com/dyn/resources/prod_documents/8155S.pdf
footprint 44A_N (Thin QFP, 44-Leads, Body 10x10mm, Pitch 0.8mm, IPC Medium Density)
footprint 44A_L (Thin QFP, 44-Leads, Body 10x10mm, Pitch 0.8mm, IPC High Density)
footprint 44A_M (Thin QFP, 44-Leads, Body 10x10mm, Pitch 0.8mm, IPC Low Density)
pins: 1 PB5 (MOSI) (io), 2 PB6 (MISO) (io), 3 PB7 (SCK) (io), 4 ~{RESET} (in), 5 VCC (power), 6 GND (power), 7 XTAL2 (out), 8 XTAL1 (in), 9 PD0 (RXD) (io), 10 PD1 (TXD) (io), 11 PD2 (INT0) (io), 12 PD3 (INT1) (io), 13 PD4 (OC1B) (io), 14 PD5 (OC1A) (io), 15 PD6 (ICP1) (io), 16 PD7 (OC2) (io), 17 VCC (power), 18 GND (power), 19 PC0 (SCL) (io), 20 PC1 (SDA) (io), 21 PC2 (TCK) (io), 22 PC3 (TMS) (io), 23 PC4 (TDO) (io), 24 PC5 (TDI) (io), 25 PC6 (TOSC1) (io), 26 PC7 (TOSC2) (io), 27 AVCC (power), 28 GND (power), 29 AREF (power), 30 PA7 (ADC7) (io), 31 PA6 (ADC6) (io), 32 PA5 (ADC5) (io), 33 PA4 (ADC4) (io), 34 PA3 (ADC3) (io), 35 PA2 (ADC2) (io), 36 PA1 (ADC1) (io), 37 PA0 (ADC0) (io), 38 VCC (power), 39 GND (power), 40 PB0 (XCK/T0) (io), 41 PB1 (T1) (io), 42 PB2 (INT2/AIN0) (io), 43 PB3 (OC0/AIN1) (io), 44 PB4 (~{SS}) (io)

## ATmega32A-ANR
designator U?
8-bit AVR Microcontroller, 2.7-5.5V, 16MHz, 32KB Flash, 1KB EEPROM, 2KB SRAM, 44-pin TQFP, Extended Grade (-40°C to 105°C), Reel; DatasheetVersion: revC, Feb-2011; PackageVersion: revC, Oct-2010; PackageReference: 44A; PackageDescription: 44-Pin Plastic Thin Profile Quad Flat Pack, 10 x 10 x 1.0 mm Body, 0.8 mm Pitch (TQFP); Code_JEDEC: MS-026-ACB; ComponentLink1Description: Manufacturer URL; ComponentLink1URL: http://www.atmel.com/; ComponentLink2Description: ATmega32A Datasheet; ComponentLink2URL: http://www.atmel.com/dyn/resources/prod_documents/doc8155.pdf; ComponentLink3Description: ATmega32A Summary; ComponentLink3URL: http://www.atmel.com/dyn/resources/prod_documents/8155S.pdf
footprint 44A_N (Thin QFP, 44-Leads, Body 10x10mm, Pitch 0.8mm, IPC Medium Density)
footprint 44A_L (Thin QFP, 44-Leads, Body 10x10mm, Pitch 0.8mm, IPC High Density)
footprint 44A_M (Thin QFP, 44-Leads, Body 10x10mm, Pitch 0.8mm, IPC Low Density)
pins: 1 PB5 (MOSI) (io), 2 PB6 (MISO) (io), 3 PB7 (SCK) (io), 4 ~{RESET} (in), 5 VCC (power), 6 GND (power), 7 XTAL2 (out), 8 XTAL1 (in), 9 PD0 (RXD) (io), 10 PD1 (TXD) (io), 11 PD2 (INT0) (io), 12 PD3 (INT1) (io), 13 PD4 (OC1B) (io), 14 PD5 (OC1A) (io), 15 PD6 (ICP1) (io), 16 PD7 (OC2) (io), 17 VCC (power), 18 GND (power), 19 PC0 (SCL) (io), 20 PC1 (SDA) (io), 21 PC2 (TCK) (io), 22 PC3 (TMS) (io), 23 PC4 (TDO) (io), 24 PC5 (TDI) (io), 25 PC6 (TOSC1) (io), 26 PC7 (TOSC2) (io), 27 AVCC (power), 28 GND (power), 29 AREF (power), 30 PA7 (ADC7) (io), 31 PA6 (ADC6) (io), 32 PA5 (ADC5) (io), 33 PA4 (ADC4) (io), 34 PA3 (ADC3) (io), 35 PA2 (ADC2) (io), 36 PA1 (ADC1) (io), 37 PA0 (ADC0) (io), 38 VCC (power), 39 GND (power), 40 PB0 (XCK/T0) (io), 41 PB1 (T1) (io), 42 PB2 (INT2/AIN0) (io), 43 PB3 (OC0/AIN1) (io), 44 PB4 (~{SS}) (io)

## ATmega32A-AU
designator U?
8-bit AVR Microcontroller, 2.7-5.5V, 16MHz, 32KB Flash, 1KB EEPROM, 2KB SRAM, 44-pin TQFP, Industrial Grade (-40°C to 85°C); DatasheetVersion: revC, Feb-2011; PackageVersion: revC, Oct-2010; PackageReference: 44A; PackageDescription: 44-Pin Plastic Thin Profile Quad Flat Pack, 10 x 10 x 1.0 mm Body, 0.8 mm Pitch (TQFP); Code_JEDEC: MS-026-ACB; ComponentLink1Description: Manufacturer URL; ComponentLink1URL: http://www.atmel.com/; ComponentLink2Description: ATmega32A Datasheet; ComponentLink2URL: http://www.atmel.com/dyn/resources/prod_documents/doc8155.pdf; ComponentLink3Description: ATmega32A Summary; ComponentLink3URL: http://www.atmel.com/dyn/resources/prod_documents/8155S.pdf
footprint 44A_N (Thin QFP, 44-Leads, Body 10x10mm, Pitch 0.8mm, IPC Medium Density)
footprint 44A_L (Thin QFP, 44-Leads, Body 10x10mm, Pitch 0.8mm, IPC High Density)
footprint 44A_M (Thin QFP, 44-Leads, Body 10x10mm, Pitch 0.8mm, IPC Low Density)
pins: 1 PB5 (MOSI) (io), 2 PB6 (MISO) (io), 3 PB7 (SCK) (io), 4 ~{RESET} (in), 5 VCC (power), 6 GND (power), 7 XTAL2 (out), 8 XTAL1 (in), 9 PD0 (RXD) (io), 10 PD1 (TXD) (io), 11 PD2 (INT0) (io), 12 PD3 (INT1) (io), 13 PD4 (OC1B) (io), 14 PD5 (OC1A) (io), 15 PD6 (ICP1) (io), 16 PD7 (OC2) (io), 17 VCC (power), 18 GND (power), 19 PC0 (SCL) (io), 20 PC1 (SDA) (io), 21 PC2 (TCK) (io), 22 PC3 (TMS) (io), 23 PC4 (TDO) (io), 24 PC5 (TDI) (io), 25 PC6 (TOSC1) (io), 26 PC7 (TOSC2) (io), 27 AVCC (power), 28 GND (power), 29 AREF (power), 30 PA7 (ADC7) (io), 31 PA6 (ADC6) (io), 32 PA5 (ADC5) (io), 33 PA4 (ADC4) (io), 34 PA3 (ADC3) (io), 35 PA2 (ADC2) (io), 36 PA1 (ADC1) (io), 37 PA0 (ADC0) (io), 38 VCC (power), 39 GND (power), 40 PB0 (XCK/T0) (io), 41 PB1 (T1) (io), 42 PB2 (INT2/AIN0) (io), 43 PB3 (OC0/AIN1) (io), 44 PB4 (~{SS}) (io)

## ATmega32A-AUR
designator U?
8-bit AVR Microcontroller, 2.7-5.5V, 16MHz, 32KB Flash, 1KB EEPROM, 2KB SRAM, 44-pin TQFP, Industrial Grade (-40°C to 85°C), Reel; DatasheetVersion: revC, Feb-2011; PackageVersion: revC, Oct-2010; PackageReference: 44A; PackageDescription: 44-Pin Plastic Thin Profile Quad Flat Pack, 10 x 10 x 1.0 mm Body, 0.8 mm Pitch (TQFP); Code_JEDEC: MS-026-ACB; ComponentLink1Description: Manufacturer URL; ComponentLink1URL: http://www.atmel.com/; ComponentLink2Description: ATmega32A Datasheet; ComponentLink2URL: http://www.atmel.com/dyn/resources/prod_documents/doc8155.pdf; ComponentLink3Description: ATmega32A Summary; ComponentLink3URL: http://www.atmel.com/dyn/resources/prod_documents/8155S.pdf
footprint 44A_N (Thin QFP, 44-Leads, Body 10x10mm, Pitch 0.8mm, IPC Medium Density)
footprint 44A_L (Thin QFP, 44-Leads, Body 10x10mm, Pitch 0.8mm, IPC High Density)
footprint 44A_M (Thin QFP, 44-Leads, Body 10x10mm, Pitch 0.8mm, IPC Low Density)
pins: 1 PB5 (MOSI) (io), 2 PB6 (MISO) (io), 3 PB7 (SCK) (io), 4 ~{RESET} (in), 5 VCC (power), 6 GND (power), 7 XTAL2 (out), 8 XTAL1 (in), 9 PD0 (RXD) (io), 10 PD1 (TXD) (io), 11 PD2 (INT0) (io), 12 PD3 (INT1) (io), 13 PD4 (OC1B) (io), 14 PD5 (OC1A) (io), 15 PD6 (ICP1) (io), 16 PD7 (OC2) (io), 17 VCC (power), 18 GND (power), 19 PC0 (SCL) (io), 20 PC1 (SDA) (io), 21 PC2 (TCK) (io), 22 PC3 (TMS) (io), 23 PC4 (TDO) (io), 24 PC5 (TDI) (io), 25 PC6 (TOSC1) (io), 26 PC7 (TOSC2) (io), 27 AVCC (power), 28 GND (power), 29 AREF (power), 30 PA7 (ADC7) (io), 31 PA6 (ADC6) (io), 32 PA5 (ADC5) (io), 33 PA4 (ADC4) (io), 34 PA3 (ADC3) (io), 35 PA2 (ADC2) (io), 36 PA1 (ADC1) (io), 37 PA0 (ADC0) (io), 38 VCC (power), 39 GND (power), 40 PB0 (XCK/T0) (io), 41 PB1 (T1) (io), 42 PB2 (INT2/AIN0) (io), 43 PB3 (OC0/AIN1) (io), 44 PB4 (~{SS}) (io)

## ATmega32A-MN
designator U?
8-bit AVR Microcontroller, 2.7-5.5V, 16MHz, 32KB Flash, 1KB EEPROM, 2KB SRAM, 44-pin VQFN, Extended Grade (-40°C to 105°C); DatasheetVersion: revC, Feb-2011; PackageVersion: revH, Sep-2008; PackageReference: 44M1; PackageDescription: 44-Pin Plastic Very Thin Quad Flat No-Lead Package, 7 x 7 x 1.0 mm Body, 0.5 mm Pitch (VQFN), 5.2 mm Exposed Pad; Code_JEDEC: MO-220-VKKD-1; ComponentLink1Description: Manufacturer URL; ComponentLink1URL: http://www.atmel.com/; ComponentLink2Description: ATmega32A Datasheet; ComponentLink2URL: http://www.atmel.com/dyn/resources/prod_documents/doc8155.pdf; ComponentLink3Description: ATmega32A Summary; ComponentLink3URL: http://www.atmel.com/dyn/resources/prod_documents/8155S.pdf
footprint 44M1_N (QFN, 44-Leads, Body 7x7mm, Pitch 0.5mm, Thermal Pad 5.3x5.3mm, IPC Medium Density)
footprint 44M1_L (QFN, 44-Leads, Body 7x7mm, Pitch 0.5mm, Thermal Pad 5.3x5.3mm, IPC High Density)
footprint 44M1_M (QFN, 44-Leads, Body 7x7mm, Pitch 0.5mm, Thermal Pad 5.3x5.3mm, IPC Low Density)
pins: 1 PB5 (MOSI) (io), 2 PB6 (MISO) (io), 3 PB7 (SCK) (io), 4 ~{RESET} (in), 5 VCC (power), 6 GND (power), 7 XTAL2 (out), 8 XTAL1 (in), 9 PD0 (RXD) (io), 10 PD1 (TXD) (io), 11 PD2 (INT0) (io), 12 PD3 (INT1) (io), 13 PD4 (OC1B) (io), 14 PD5 (OC1A) (io), 15 PD6 (ICP1) (io), 16 PD7 (OC2) (io), 17 VCC (power), 18 GND (power), 19 PC0 (SCL) (io), 20 PC1 (SDA) (io), 21 PC2 (TCK) (io), 22 PC3 (TMS) (io), 23 PC4 (TDO) (io), 24 PC5 (TDI) (io), 25 PC6 (TOSC1) (io), 26 PC7 (TOSC2) (io), 27 AVCC (power), 28 GND (power), 29 AREF (power), 30 PA7 (ADC7) (io), 31 PA6 (ADC6) (io), 32 PA5 (ADC5) (io), 33 PA4 (ADC4) (io), 34 PA3 (ADC3) (io), 35 PA2 (ADC2) (io), 36 PA1 (ADC1) (io), 37 PA0 (ADC0) (io), 38 VCC (power), 39 GND (power), 40 PB0 (XCK/T0) (io), 41 PB1 (T1) (io), 42 PB2 (INT2/AIN0) (io), 43 PB3 (OC0/AIN1) (io), 44 PB4 (~{SS}) (io), 45 DAP (power)

## ATmega32A-MNR
designator U?
8-bit AVR Microcontroller, 2.7-5.5V, 16MHz, 32KB Flash, 1KB EEPROM, 2KB SRAM, 44-pin VQFN, Extended Grade (-40°C to 105°C), Reel; DatasheetVersion: revC, Feb-2011; PackageVersion: revH, Sep-2008; PackageReference: 44M1; PackageDescription: 44-Pin Plastic Very Thin Quad Flat No-Lead Package, 7 x 7 x 1.0 mm Body, 0.5 mm Pitch (VQFN), 5.2 mm Exposed Pad; Code_JEDEC: MO-220-VKKD-1; ComponentLink1Description: Manufacturer URL; ComponentLink1URL: http://www.atmel.com/; ComponentLink2Description: ATmega32A Datasheet; ComponentLink2URL: http://www.atmel.com/dyn/resources/prod_documents/doc8155.pdf; ComponentLink3Description: ATmega32A Summary; ComponentLink3URL: http://www.atmel.com/dyn/resources/prod_documents/8155S.pdf
footprint 44M1_N (QFN, 44-Leads, Body 7x7mm, Pitch 0.5mm, Thermal Pad 5.3x5.3mm, IPC Medium Density)
footprint 44M1_L (QFN, 44-Leads, Body 7x7mm, Pitch 0.5mm, Thermal Pad 5.3x5.3mm, IPC High Density)
footprint 44M1_M (QFN, 44-Leads, Body 7x7mm, Pitch 0.5mm, Thermal Pad 5.3x5.3mm, IPC Low Density)
pins: 1 PB5 (MOSI) (io), 2 PB6 (MISO) (io), 3 PB7 (SCK) (io), 4 ~{RESET} (in), 5 VCC (power), 6 GND (power), 7 XTAL2 (out), 8 XTAL1 (in), 9 PD0 (RXD) (io), 10 PD1 (TXD) (io), 11 PD2 (INT0) (io), 12 PD3 (INT1) (io), 13 PD4 (OC1B) (io), 14 PD5 (OC1A) (io), 15 PD6 (ICP1) (io), 16 PD7 (OC2) (io), 17 VCC (power), 18 GND (power), 19 PC0 (SCL) (io), 20 PC1 (SDA) (io), 21 PC2 (TCK) (io), 22 PC3 (TMS) (io), 23 PC4 (TDO) (io), 24 PC5 (TDI) (io), 25 PC6 (TOSC1) (io), 26 PC7 (TOSC2) (io), 27 AVCC (power), 28 GND (power), 29 AREF (power), 30 PA7 (ADC7) (io), 31 PA6 (ADC6) (io), 32 PA5 (ADC5) (io), 33 PA4 (ADC4) (io), 34 PA3 (ADC3) (io), 35 PA2 (ADC2) (io), 36 PA1 (ADC1) (io), 37 PA0 (ADC0) (io), 38 VCC (power), 39 GND (power), 40 PB0 (XCK/T0) (io), 41 PB1 (T1) (io), 42 PB2 (INT2/AIN0) (io), 43 PB3 (OC0/AIN1) (io), 44 PB4 (~{SS}) (io), 45 DAP (power)

## ATmega32A-MU
designator U?
8-bit AVR Microcontroller, 2.7-5.5V, 16MHz, 32KB Flash, 1KB EEPROM, 2KB SRAM, 44-pin VQFN, Industrial Grade (-40°C to 85°C); DatasheetVersion: revC, Feb-2011; PackageVersion: revH, Sep-2008; PackageReference: 44M1; PackageDescription: 44-Pin Plastic Very Thin Quad Flat No-Lead Package, 7 x 7 x 1.0 mm Body, 0.5 mm Pitch (VQFN), 5.2 mm Exposed Pad; Code_JEDEC: MO-220-VKKD-1; ComponentLink1Description: Manufacturer URL; ComponentLink1URL: http://www.atmel.com/; ComponentLink2Description: ATmega32A Datasheet; ComponentLink2URL: http://www.atmel.com/dyn/resources/prod_documents/doc8155.pdf; ComponentLink3Description: ATmega32A Summary; ComponentLink3URL: http://www.atmel.com/dyn/resources/prod_documents/8155S.pdf
footprint 44M1_N (QFN, 44-Leads, Body 7x7mm, Pitch 0.5mm, Thermal Pad 5.3x5.3mm, IPC Medium Density)
footprint 44M1_L (QFN, 44-Leads, Body 7x7mm, Pitch 0.5mm, Thermal Pad 5.3x5.3mm, IPC High Density)
footprint 44M1_M (QFN, 44-Leads, Body 7x7mm, Pitch 0.5mm, Thermal Pad 5.3x5.3mm, IPC Low Density)
pins: 1 PB5 (MOSI) (io), 2 PB6 (MISO) (io), 3 PB7 (SCK) (io), 4 ~{RESET} (in), 5 VCC (power), 6 GND (power), 7 XTAL2 (out), 8 XTAL1 (in), 9 PD0 (RXD) (io), 10 PD1 (TXD) (io), 11 PD2 (INT0) (io), 12 PD3 (INT1) (io), 13 PD4 (OC1B) (io), 14 PD5 (OC1A) (io), 15 PD6 (ICP1) (io), 16 PD7 (OC2) (io), 17 VCC (power), 18 GND (power), 19 PC0 (SCL) (io), 20 PC1 (SDA) (io), 21 PC2 (TCK) (io), 22 PC3 (TMS) (io), 23 PC4 (TDO) (io), 24 PC5 (TDI) (io), 25 PC6 (TOSC1) (io), 26 PC7 (TOSC2) (io), 27 AVCC (power), 28 GND (power), 29 AREF (power), 30 PA7 (ADC7) (io), 31 PA6 (ADC6) (io), 32 PA5 (ADC5) (io), 33 PA4 (ADC4) (io), 34 PA3 (ADC3) (io), 35 PA2 (ADC2) (io), 36 PA1 (ADC1) (io), 37 PA0 (ADC0) (io), 38 VCC (power), 39 GND (power), 40 PB0 (XCK/T0) (io), 41 PB1 (T1) (io), 42 PB2 (INT2/AIN0) (io), 43 PB3 (OC0/AIN1) (io), 44 PB4 (~{SS}) (io), 45 DAP (power)

## ATmega32A-MUR
designator U?
8-bit AVR Microcontroller, 2.7-5.5V, 16MHz, 32KB Flash, 1KB EEPROM, 2KB SRAM, 44-pin VQFN, Industrial Grade (-40°C to 85°C), Reel; DatasheetVersion: revC, Feb-2011; PackageVersion: revH, Sep-2008; PackageReference: 44M1; PackageDescription: 44-Pin Plastic Very Thin Quad Flat No-Lead Package, 7 x 7 x 1.0 mm Body, 0.5 mm Pitch (VQFN), 5.2 mm Exposed Pad; Code_JEDEC: MO-220-VKKD-1; ComponentLink1Description: Manufacturer URL; ComponentLink1URL: http://www.atmel.com/; ComponentLink2Description: ATmega32A Datasheet; ComponentLink2URL: http://www.atmel.com/dyn/resources/prod_documents/doc8155.pdf; ComponentLink3Description: ATmega32A Summary; ComponentLink3URL: http://www.atmel.com/dyn/resources/prod_documents/8155S.pdf
footprint 44M1_N (QFN, 44-Leads, Body 7x7mm, Pitch 0.5mm, Thermal Pad 5.3x5.3mm, IPC Medium Density)
footprint 44M1_L (QFN, 44-Leads, Body 7x7mm, Pitch 0.5mm, Thermal Pad 5.3x5.3mm, IPC High Density)
footprint 44M1_M (QFN, 44-Leads, Body 7x7mm, Pitch 0.5mm, Thermal Pad 5.3x5.3mm, IPC Low Density)
pins: 1 PB5 (MOSI) (io), 2 PB6 (MISO) (io), 3 PB7 (SCK) (io), 4 ~{RESET} (in), 5 VCC (power), 6 GND (power), 7 XTAL2 (out), 8 XTAL1 (in), 9 PD0 (RXD) (io), 10 PD1 (TXD) (io), 11 PD2 (INT0) (io), 12 PD3 (INT1) (io), 13 PD4 (OC1B) (io), 14 PD5 (OC1A) (io), 15 PD6 (ICP1) (io), 16 PD7 (OC2) (io), 17 VCC (power), 18 GND (power), 19 PC0 (SCL) (io), 20 PC1 (SDA) (io), 21 PC2 (TCK) (io), 22 PC3 (TMS) (io), 23 PC4 (TDO) (io), 24 PC5 (TDI) (io), 25 PC6 (TOSC1) (io), 26 PC7 (TOSC2) (io), 27 AVCC (power), 28 GND (power), 29 AREF (power), 30 PA7 (ADC7) (io), 31 PA6 (ADC6) (io), 32 PA5 (ADC5) (io), 33 PA4 (ADC4) (io), 34 PA3 (ADC3) (io), 35 PA2 (ADC2) (io), 36 PA1 (ADC1) (io), 37 PA0 (ADC0) (io), 38 VCC (power), 39 GND (power), 40 PB0 (XCK/T0) (io), 41 PB1 (T1) (io), 42 PB2 (INT2/AIN0) (io), 43 PB3 (OC0/AIN1) (io), 44 PB4 (~{SS}) (io), 45 DAP (power)

## ATmega32A-PU
designator U?
8-bit AVR Microcontroller, 2.7-5.5V, 16MHz, 32KB Flash, 1KB EEPROM, 2KB SRAM, 40-pin PDIP, Industrial Grade (-40°C to 85°C); DatasheetVersion: revC, Feb-2011; PackageVersion: revB, Sep-2001; PackageReference: 40P6; PackageDescription: 40-lead (0.600"/15.24mm Wide) Plastic Dual Inline Package (PDIP); Code_JEDEC: MS-011-AC; ComponentLink1Description: Manufacturer URL; ComponentLink1URL: http://www.atmel.com/; ComponentLink2Description: ATmega32A Datasheet; ComponentLink2URL: http://www.atmel.com/dyn/resources/prod_documents/doc8155.pdf; ComponentLink3Description: ATmega32A Summary; ComponentLink3URL: http://www.atmel.com/dyn/resources/prod_documents/8155S.pdf
footprint 40P6 (DIP, 40-Leads, Row Spacing 15.24mm, Pitch 2.54mm, Body 52.2x13.95mm)
pins: 1 PB0 (XCK/T0) (io), 2 PB1 (T1) (io), 3 PB2 (INT2/AIN0) (io), 4 PB3 (OC0/AIN1) (io), 5 PB4 (~{SS}) (io), 6 PB5 (MOSI) (io), 7 PB6 (MISO) (io), 8 PB7 (SCK) (io), 9 ~{RESET} (in), 10 VCC (power), 11 GND (power), 12 XTAL2, 13 XTAL1, 14 PD0 (RXD) (io), 15 PD1 (TXD) (io), 16 PD2 (INT0) (io), 17 PD3 (INT1) (io), 18 PD4 (OC1B) (io), 19 PD5 (OC1A) (io), 20 PD6 (ICP1) (io), 21 PD7 (OC2) (io), 22 PC0 (SCL) (io), 23 PC1 (SDA) (io), 24 PC2 (TCK) (io), 25 PC3 (TMS) (io), 26 PC4 (TDO) (io), 27 PC5 (TDI) (io), 28 PC6 (TOSC1) (io), 29 PC7 (TOSC2) (io), 30 AVCC (power), 31 GND (power), 32 AREF (power), 33 PA7 (ADC7) (io), 34 PA6 (ADC6) (io), 35 PA5 (ADC5) (io), 36 PA4 (ADC4) (io), 37 PA3 (ADC3) (io), 38 PA2 (ADC2) (io), 39 PA1 (ADC1) (io), 40 PA0 (ADC0) (io)

## ATmega32L-8AU
designator U?
8-bit AVR Microcontroller, 2.7-5.5V, 8MHz, 32KB Flash, 1024 Bytes EEPROM, 2KB SRAM, 44-pin TQFP, Industrial Grade (-40°C to 85°C); DatasheetVersion: revQ, Feb-2011; PackageVersion: revC, Oct-2010; PackageReference: 44A; PackageDescription: 44-Pin Plastic Thin Profile Quad Flat Pack, 10 x 10 x 1.0 mm Body, 0.8 mm Pitch (TQFP); Code_JEDEC: MS-026-ACB; ComponentLink1Description: Manufacturer URL; ComponentLink1URL: http://www.atmel.com/; ComponentLink2Description: ATmega32(L) Datasheet; ComponentLink2URL: http://atmel.com/dyn/resources/prod_documents/doc2503.pdf; ComponentLink3Description: ATmega32(L) Summary; ComponentLink3URL: http://atmel.com/dyn/resources/prod_documents/2503S.pdf
footprint 44A_N (Thin QFP, 44-Leads, Body 10x10mm, Pitch 0.8mm, IPC Medium Density)
footprint 44A_L (Thin QFP, 44-Leads, Body 10x10mm, Pitch 0.8mm, IPC High Density)
footprint 44A_M (Thin QFP, 44-Leads, Body 10x10mm, Pitch 0.8mm, IPC Low Density)
pins: 1 PB5 (MOSI) (io), 2 PB6 (MISO) (io), 3 PB7 (SCK) (io), 4 ~{RESET} (in), 5 VCC (power), 6 GND (power), 7 XTAL2, 8 XTAL1, 9 PD0 (RXD) (io), 10 PD1 (TXD) (io), 11 PD2 (INT0) (io), 12 PD3 (INT1) (io), 13 PD4 (OC1B) (io), 14 PD5 (OC1A) (io), 15 PD6 (ICP) (io), 16 PD7 (OC2) (io), 17 VCC (power), 18 GND (power), 19 PC0 (SCL) (io), 20 PC1 (SDA) (io), 21 PC2 (TCK) (io), 22 PC3 (TMS) (io), 23 PC4 (TDO) (io), 24 PC5 (TDI) (io), 25 PC6 (TOSC1) (io), 26 PC7 (TOSC2) (io), 27 AVCC (power), 28 GND (power), 29 AREF, 30 PA7 (ADC7) (io), 31 PA6 (ADC6) (io), 32 PA5 (ADC5) (io), 33 PA4 (ADC4) (io), 34 PA3 (ADC3) (io), 35 PA2 (ADC2) (io), 36 PA1 (ADC1) (io), 37 PA0 (ADC0) (io), 38 VCC (power), 39 GND (power), 40 PB0 (XCK/T0) (io), 41 PB1 (T1) (io), 42 PB2 (AIN0/INT2) (io), 43 PB3 (AIN1/OC0) (io), 44 PB4 (~{SS}) (io)

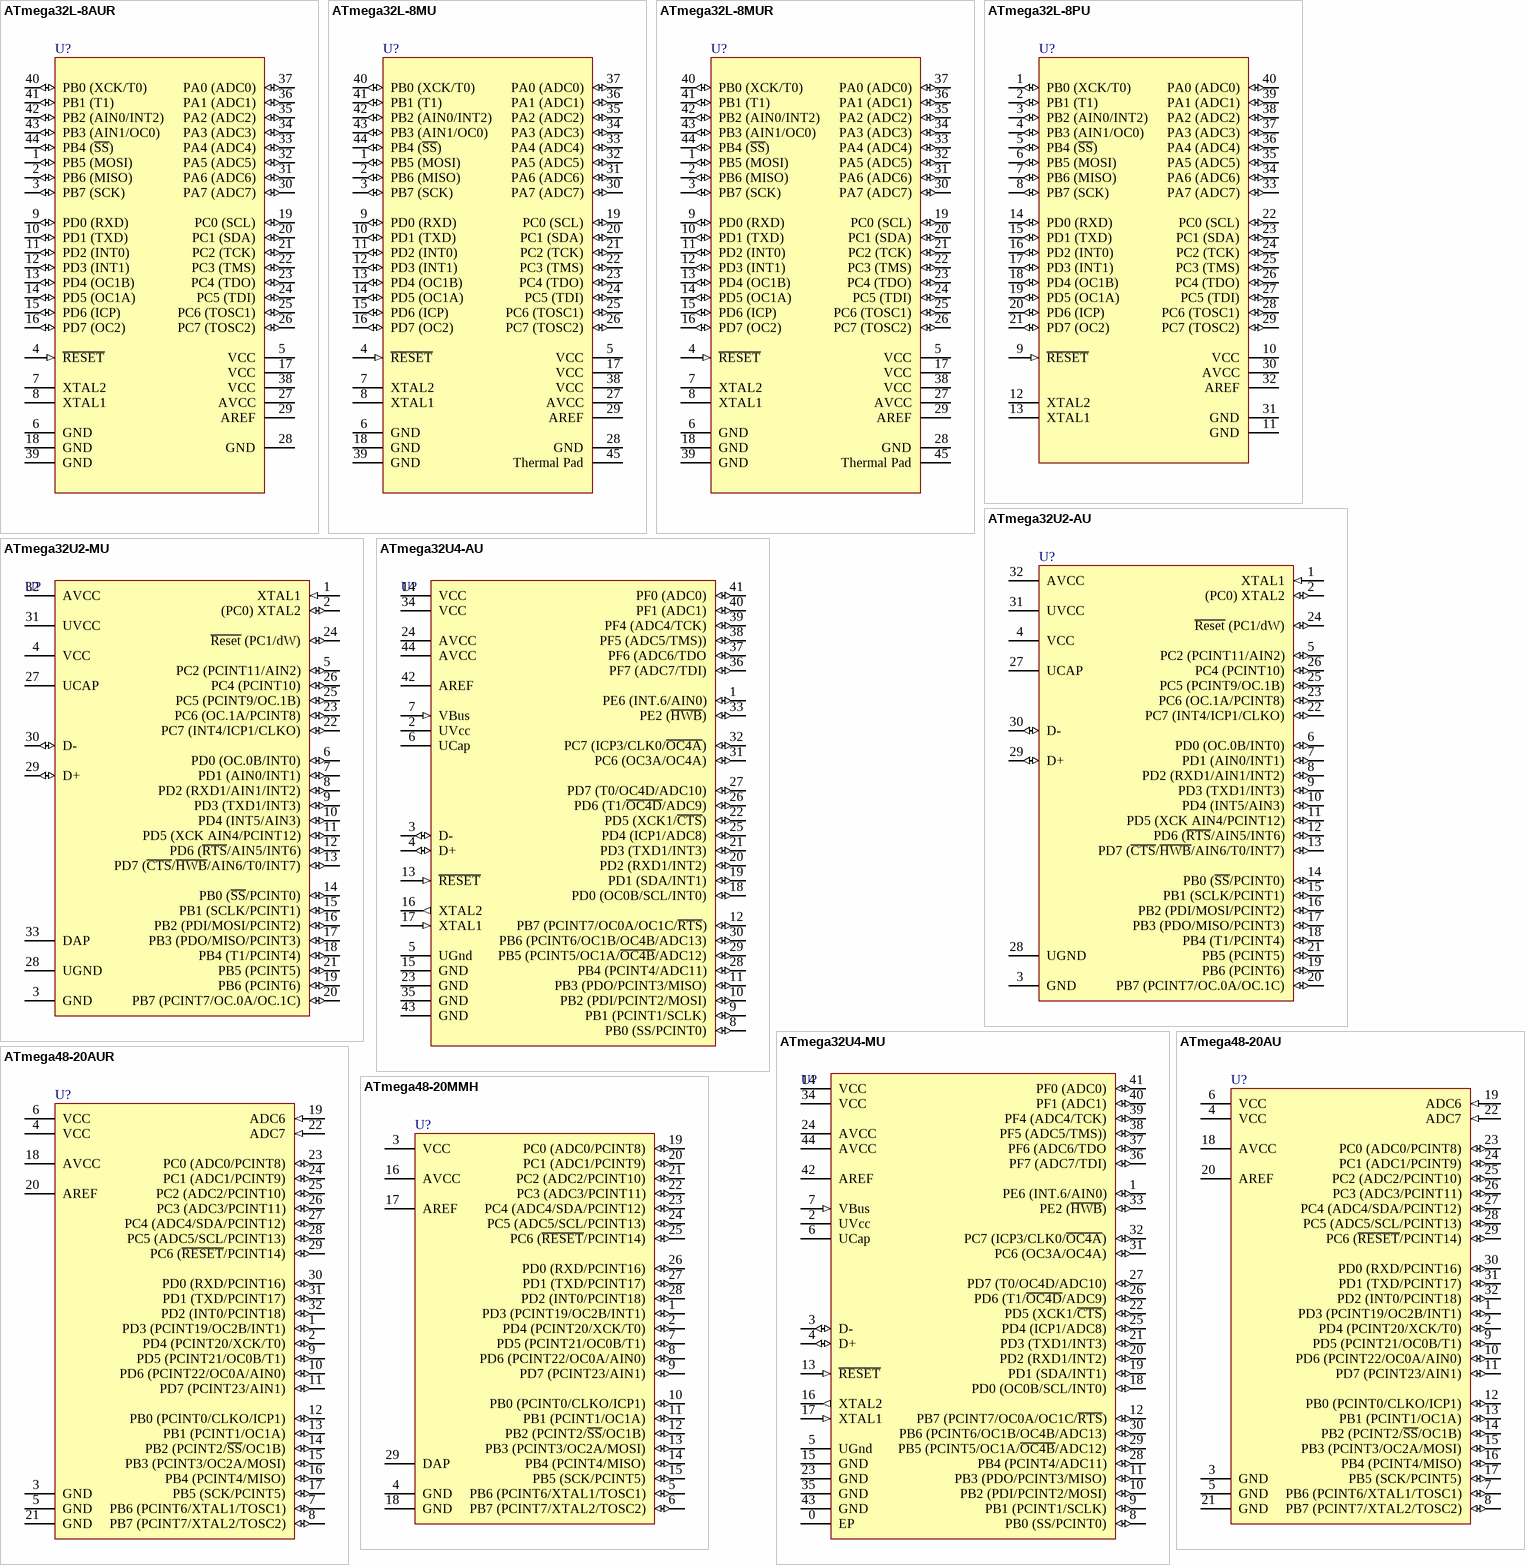
[diagram p8: symbols ATmega32L-8AUR to ATmega48-20MMH]

## ATmega32L-8AUR
designator U?
8-bit AVR Microcontroller, 2.7-5.5V, 8MHz, 32KB Flash, 1024 Bytes EEPROM, 2KB SRAM, 44-pin TQFP, Industrial Grade (-40°C to 85°C), Reel; DatasheetVersion: revQ, Feb-2011; PackageVersion: revC, Oct-2010; PackageReference: 44A; PackageDescription: 44-Pin Plastic Thin Profile Quad Flat Pack, 10 x 10 x 1.0 mm Body, 0.8 mm Pitch (TQFP); Code_JEDEC: MS-026-ACB; ComponentLink1Description: Manufacturer URL; ComponentLink1URL: http://www.atmel.com/; ComponentLink2Description: ATmega32(L) Datasheet; ComponentLink2URL: http://atmel.com/dyn/resources/prod_documents/doc2503.pdf; ComponentLink3Description: ATmega32(L) Summary; ComponentLink3URL: http://atmel.com/dyn/resources/prod_documents/2503S.pdf
footprint 44A_N (Thin QFP, 44-Leads, Body 10x10mm, Pitch 0.8mm, IPC Medium Density)
footprint 44A_L (Thin QFP, 44-Leads, Body 10x10mm, Pitch 0.8mm, IPC High Density)
footprint 44A_M (Thin QFP, 44-Leads, Body 10x10mm, Pitch 0.8mm, IPC Low Density)
pins: 1 PB5 (MOSI) (io), 2 PB6 (MISO) (io), 3 PB7 (SCK) (io), 4 ~{RESET} (in), 5 VCC (power), 6 GND (power), 7 XTAL2, 8 XTAL1, 9 PD0 (RXD) (io), 10 PD1 (TXD) (io), 11 PD2 (INT0) (io), 12 PD3 (INT1) (io), 13 PD4 (OC1B) (io), 14 PD5 (OC1A) (io), 15 PD6 (ICP) (io), 16 PD7 (OC2) (io), 17 VCC (power), 18 GND (power), 19 PC0 (SCL) (io), 20 PC1 (SDA) (io), 21 PC2 (TCK) (io), 22 PC3 (TMS) (io), 23 PC4 (TDO) (io), 24 PC5 (TDI) (io), 25 PC6 (TOSC1) (io), 26 PC7 (TOSC2) (io), 27 AVCC (power), 28 GND (power), 29 AREF, 30 PA7 (ADC7) (io), 31 PA6 (ADC6) (io), 32 PA5 (ADC5) (io), 33 PA4 (ADC4) (io), 34 PA3 (ADC3) (io), 35 PA2 (ADC2) (io), 36 PA1 (ADC1) (io), 37 PA0 (ADC0) (io), 38 VCC (power), 39 GND (power), 40 PB0 (XCK/T0) (io), 41 PB1 (T1) (io), 42 PB2 (AIN0/INT2) (io), 43 PB3 (AIN1/OC0) (io), 44 PB4 (~{SS}) (io)